# Altium schematic symbol library XU-GENARAL SCH.SCHLIB: 318 symbols (part 1 of 2)
Pins are listed as number, name and electrical type; pins without a type are passive.

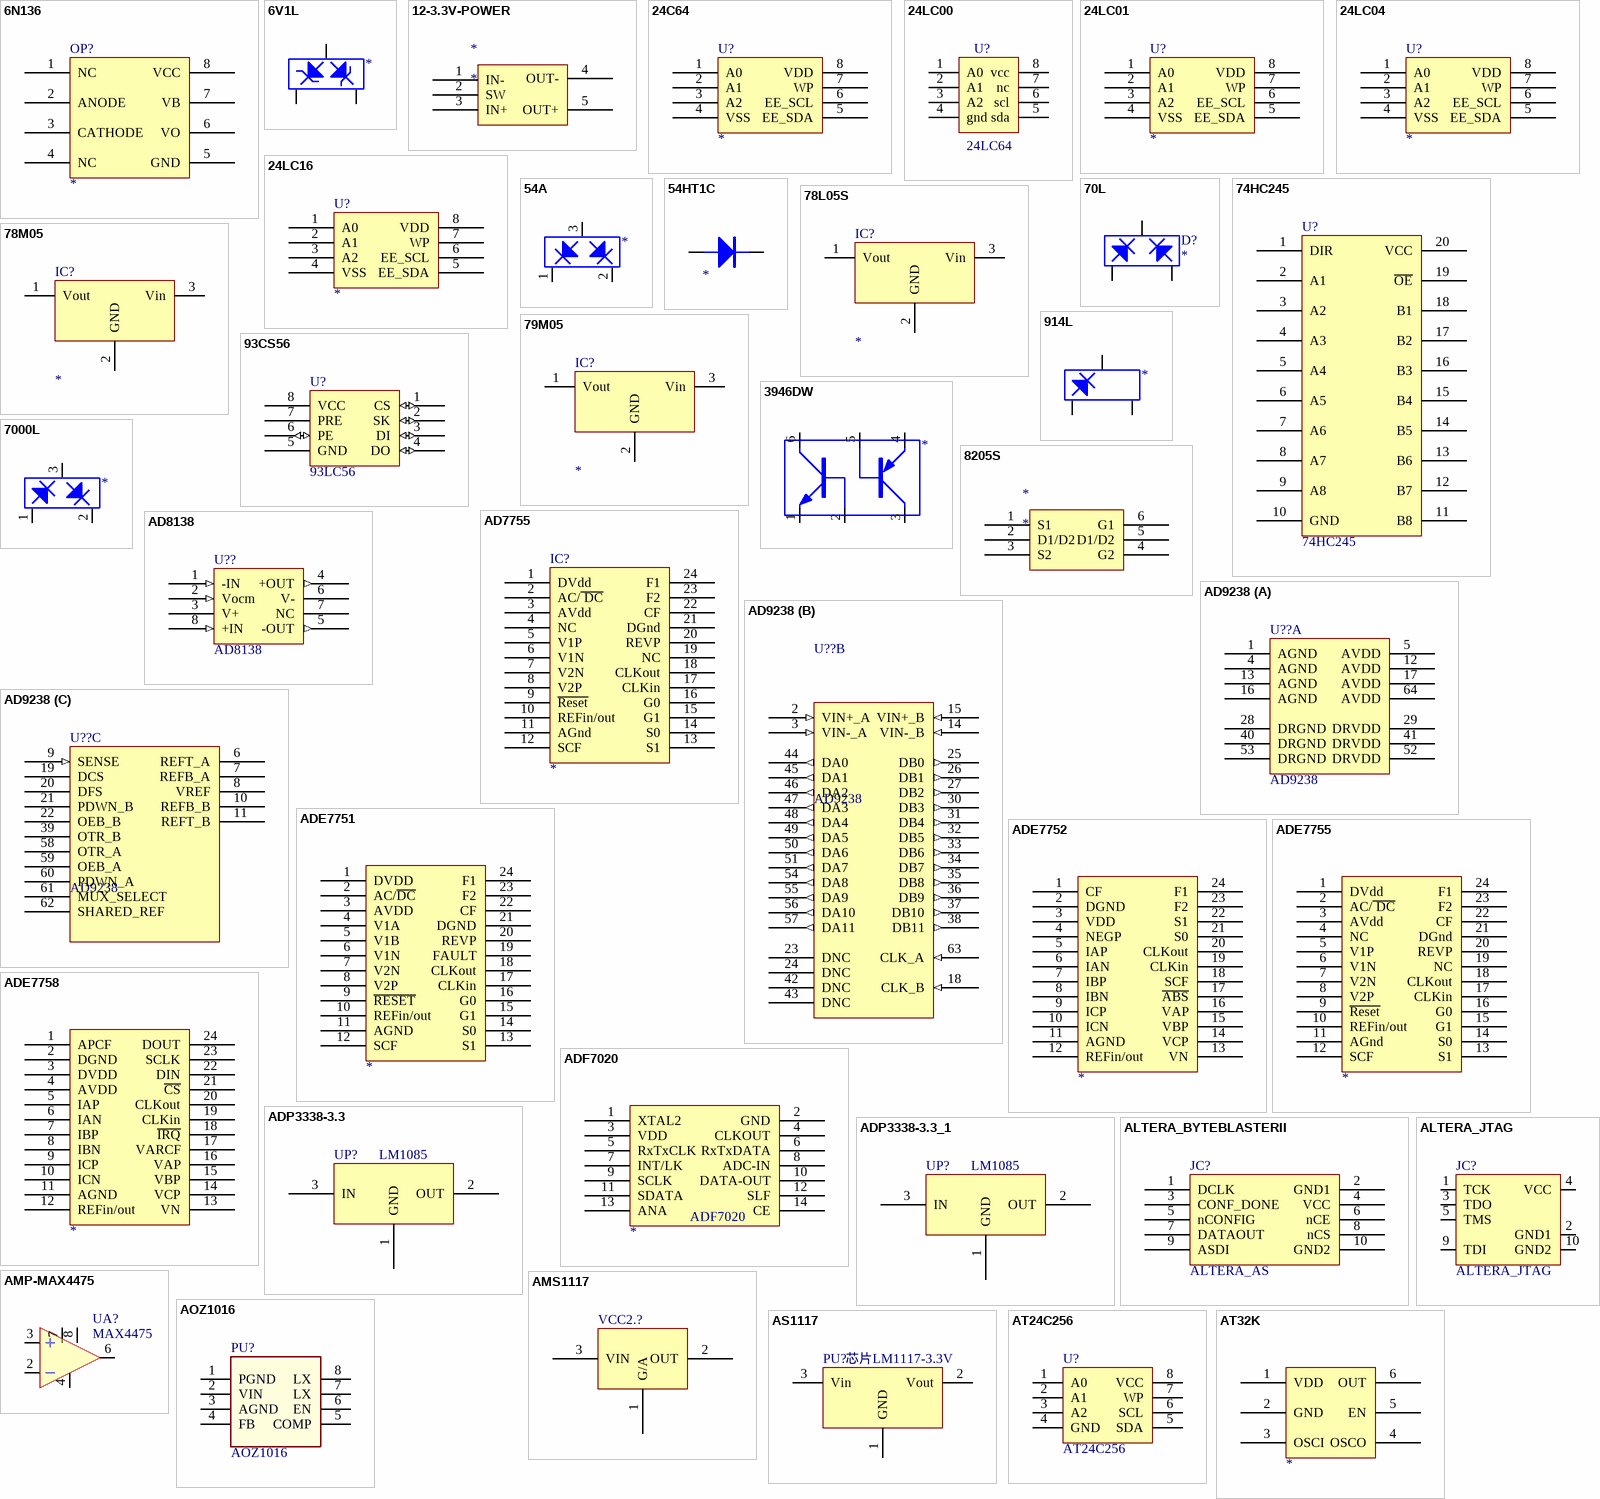
[diagram p0: symbols 6N136 to AT32K]

## 6N136
designator OP?
footprint DIP8
pins: 1 NC, 2 ANODE, 3 CATHODE, 4 NC, 5 GND, 6 VO, 7 VB, 8 VCC

## 6V1L
designator ?
pins: 1, 2, 3

## 12-3.3V-POWER
designator *
pins: 1 IN-, 2 SW, 3 IN+, 4 OUT-, 5 OUT+

## 24C64
designator U?
footprint SO-8
footprint DIP8
pins: 1 A0, 2 A1, 3 A2, 4 VSS, 5 EE_SDA, 6 EE_SCL, 7 WP, 8 VDD

## 24LC00
designator U?, comment 24LC64
footprint dip8
footprint 24C64(four usb)
pins: 1 A0, 2 A1, 3 A2, 4 gnd, 5 sda, 6 scl, 7 nc, 8 vcc

## 24LC01
designator U?
footprint SO-8
footprint DIP8
pins: 1 A0, 2 A1, 3 A2, 4 VSS, 5 EE_SDA, 6 EE_SCL, 7 WP, 8 VDD

## 24LC04
designator U?
footprint SO-8
footprint DIP8
pins: 1 A0, 2 A1, 3 A2, 4 VSS, 5 EE_SDA, 6 EE_SCL, 7 WP, 8 VDD

## 24LC16
designator U?
footprint SO-8
footprint DIP8
pins: 1 A0, 2 A1, 3 A2, 4 VSS, 5 EE_SDA, 6 EE_SCL, 7 WP, 8 VDD

## 54A
designator ?
pins: 1, 2, 3

## 54HT1C
designator ?
pins: A, K

## 70L
designator D?
footprint SOT23
pins: 1, 2, 3

## 74HC245
designator U?
footprint SOJ20/400
pins: 1 DIR, 2 A1, 3 A2, 4 A3, 5 A4, 6 A5, 7 A6, 8 A7, 9 A8, 10 GND, 11 B8, 12 B7, 13 B6, 14 B5, 15 B4, 16 B3, 17 B2, 18 B1, 19 ~{OE}, 20 VCC

## 78L05S
designator IC?
footprint SOT-89-1
pins: 1 Vout, 2 GND, 3 Vin

## 78M05
designator IC?
footprint SOT-89-1
pins: 1 Vout, 2 GND, 3 Vin

## 79M05
designator IC?
footprint SOT-89-1
pins: 1 Vout, 2 GND, 3 Vin

## 93CS56
designator U?, comment 93LC56
footprint DIP8
pins: 1 CS (io), 2 SK (io), 3 DI (io), 4 DO (io), 5 GND, 6 PE (io), 7 PRE, 8 VCC

## 914L
designator ?
pins: 1, 2, 3

## 3946DW
designator ?
pins: 1 E, 2 B, 3 C, 4 E, 5 B, 6 C

## 7000L
designator ?
pins: 1, 2, 3

## 8205S
designator *
pins: 1 S1, 2 D1/D2, 3 S2, 4 G2, 5 D1/D2, 6 G1

## AD7755
designator IC?
footprint DIP24_AD7755AAN
footprint SSOP24_AD7755AARS
pins: 1 DVdd, 2 AC/~{ DC}, 3 AVdd, 4 NC, 5 V1P, 6 V1N, 7 V2N, 8 V2P, 9 ~{Reset}, 10 REFin/out, 11 AGnd, 12 SCF, 13 S1, 14 S0, 15 G1, 16 G0, 17 CLKin, 18 CLKout, 19 NC, 20 REVP, 21 DGnd, 22 CF, 23 F2, 24 F1

## AD8138
designator U??
footprint AD8138 (SOIC, 8-Leads, Body 5.0x4.0mm (max), Pitch 1.27mm, IPC Medium Density)
pins: 1 -IN (in), 2 Vocm (in), 3 V+ (power), 4 +OUT (out), 5 -OUT (out), 6 V- (power), 7 NC, 8 +IN (in)

## AD9238
designator U??
part A pins: 1 AGND (power), 4 AGND (power), 5 AVDD (power), 12 AVDD (power), 13 AGND, 16 AGND, 17 AVDD (power), 28 DRGND (power), 29 DRVDD (power), 40 DRGND (power), 41 DRVDD (power), 52 DRVDD (power), 53 DRGND (power), 64 AVDD (power)
part B pins: 2 VIN+_A (in), 3 VIN-_A (in), 14 VIN-_B (in), 15 VIN+_B (in), 18 CLK_B (in), 23 DNC, 24 DNC, 25 DB0 (out), 26 DB1 (out), 27 DB2 (out), 30 DB3 (out), 31 DB4 (out), 32 DB5 (out), 33 DB6 (out), 34 DB7 (out), 35 DB8 (out), 36 DB9 (out), 37 DB10 (out), 38 DB11 (out), 42 DNC, 43 DNC, 44 DA0 (out), 45 DA1 (out), 46 DA2 (out), 47 DA3 (out), 48 DA4 (out), 49 DA5 (out), 50 DA6 (out), 51 DA7 (out), 54 DA8 (out), 55 DA9 (out), 56 DA10 (out), 57 DA11 (out), 63 CLK_A (in)
part C pins: 6 REFT_A, 7 REFB_A, 8 VREF, 9 SENSE (in), 10 REFB_B, 11 REFT_B, 19 DCS, 20 DFS, 21 PDWN_B, 22 OEB_B, 39 OTR_B, 58 OTR_A, 59 OEB_A, 60 PDWN_A, 61 MUX_SELECT, 62 SHARED_REF

## ADE7751
designator ?
pins: 1 DVDD, 2 AC/~{DC}, 3 AVDD, 4 V1A, 5 V1B, 6 V1N, 7 V2N, 8 V2P, 9 ~{RESET}, 10 REFin/out, 11 AGND, 12 SCF, 13 S1, 14 S0, 15 G1, 16 G0, 17 CLKin, 18 CLKout, 19 FAULT, 20 REVP, 21 DGND, 22 CF, 23 F2, 24 F1

## ADE7752
designator ?
footprint SOIC24_ADE7752
pins: 1 CF, 2 DGND, 3 VDD, 4 NEGP, 5 IAP, 6 IAN, 7 IBP, 8 IBN, 9 ICP, 10 ICN, 11 AGND, 12 REFin/out, 13 VN, 14 VCP, 15 VBP, 16 VAP, 17 ~{ABS}, 18 SCF, 19 CLKin, 20 CLKout, 21 S0, 22 S1, 23 F2, 24 F1

## ADE7755
designator ?
pins: 1 DVdd, 2 AC/~{ DC}, 3 AVdd, 4 NC, 5 V1P, 6 V1N, 7 V2N, 8 V2P, 9 ~{Reset}, 10 REFin/out, 11 AGnd, 12 SCF, 13 S1, 14 S0, 15 G1, 16 G0, 17 CLKin, 18 CLKout, 19 NC, 20 REVP, 21 DGnd, 22 CF, 23 F2, 24 F1

## ADE7758
designator ?
pins: 1 APCF, 2 DGND, 3 DVDD, 4 AVDD, 5 IAP, 6 IAN, 7 IBP, 8 IBN, 9 ICP, 10 ICN, 11 AGND, 12 REFin/out, 13 VN, 14 VCP, 15 VBP, 16 VAP, 17 VARCF, 18 ~{IRQ}, 19 CLKin, 20 CLKout, 21 ~{CS}, 22 DIN, 23 SCLK, 24 DOUT

## ADF7020
designator ?
pins: 1 XTAL2, 2 GND, 3 VDD, 4 CLKOUT, 5 RxTxCLK, 6 RxTxDATA, 7 INT/LK, 8 ADC-IN, 9 SCLK, 10 DATA-OUT, 11 SDATA, 12 SLF, 13 ANA, 14 CE

## ADP3338-3.3
designator UP?, comment LM1085
Text Field1: 80; Text Field2: 40
footprint DDPAK
pins: 1 GND (power), 2 OUT (power), 3 IN (power)

## ADP3338-3.3_1
designator UP?, comment LM1085
Text Field1: 80; Text Field2: 40
footprint DDPAK
pins: 1 GND (power), 2 OUT (power), 3 IN (power)

## ALTERA_BYTEBLASTERII
designator JC?, comment ALTERA_AS
Text Field1: 100; Text Field2: 60
footprint IDC10
pins: 1 DCLK, 2 GND1, 3 CONF_DONE, 4 VCC, 5 nCONFIG, 6 nCE, 7 DATAOUT, 8 nCS, 9 ASDI, 10 GND2
1 alternate drawing of the same symbol

## ALTERA_JTAG
designator JC?
Text Field1: 70; Text Field2: 60
footprint IDC10
pins: 1 TCK, 2 GND1 (power), 3 TDO, 4 VCC (power), 5 TMS, 6 NC1 hidden to NC1, 7 NC2 hidden to NC2, 8 NC3 hidden to NC3, 9 TDI, 10 GND2 (power)

## AMP-MAX4475
designator UA?, comment MAX4475
footprint SO8
footprint SO8 - 1
pins: 2 IN-, 3 IN+, 4 V- (power), 6 OUT, 7 V+ (power), 8 EN (power)

## AMS1117
designator VCC2.?  (value not drawn)
footprint AMS1117-1.2
pins: 1 G/A (power), 2 OUT (power), 3 VIN (power)

## AOZ1016
designator PU?
footprint SO8
pins: 1 PGND, 2 VIN, 3 AGND, 4 FB, 5 COMP, 6 EN, 7 LX, 8 LX

## AS1117
designator PU?, comment 芯片LM1117-3.3V
footprint SOT223S
pins: 1 GND, 2 Vout, 3 Vin

## AT24C256
designator U?
footprint SO8
pins: 1 A0, 2 A1, 3 A2, 4 GND, 5 SDA, 6 SCL, 7 WP, 8 VCC

## AT32K
designator ?
pins: 1 VDD, 2 GND, 3 OSCI, 4 OSCO, 5 EN, 6 OUT

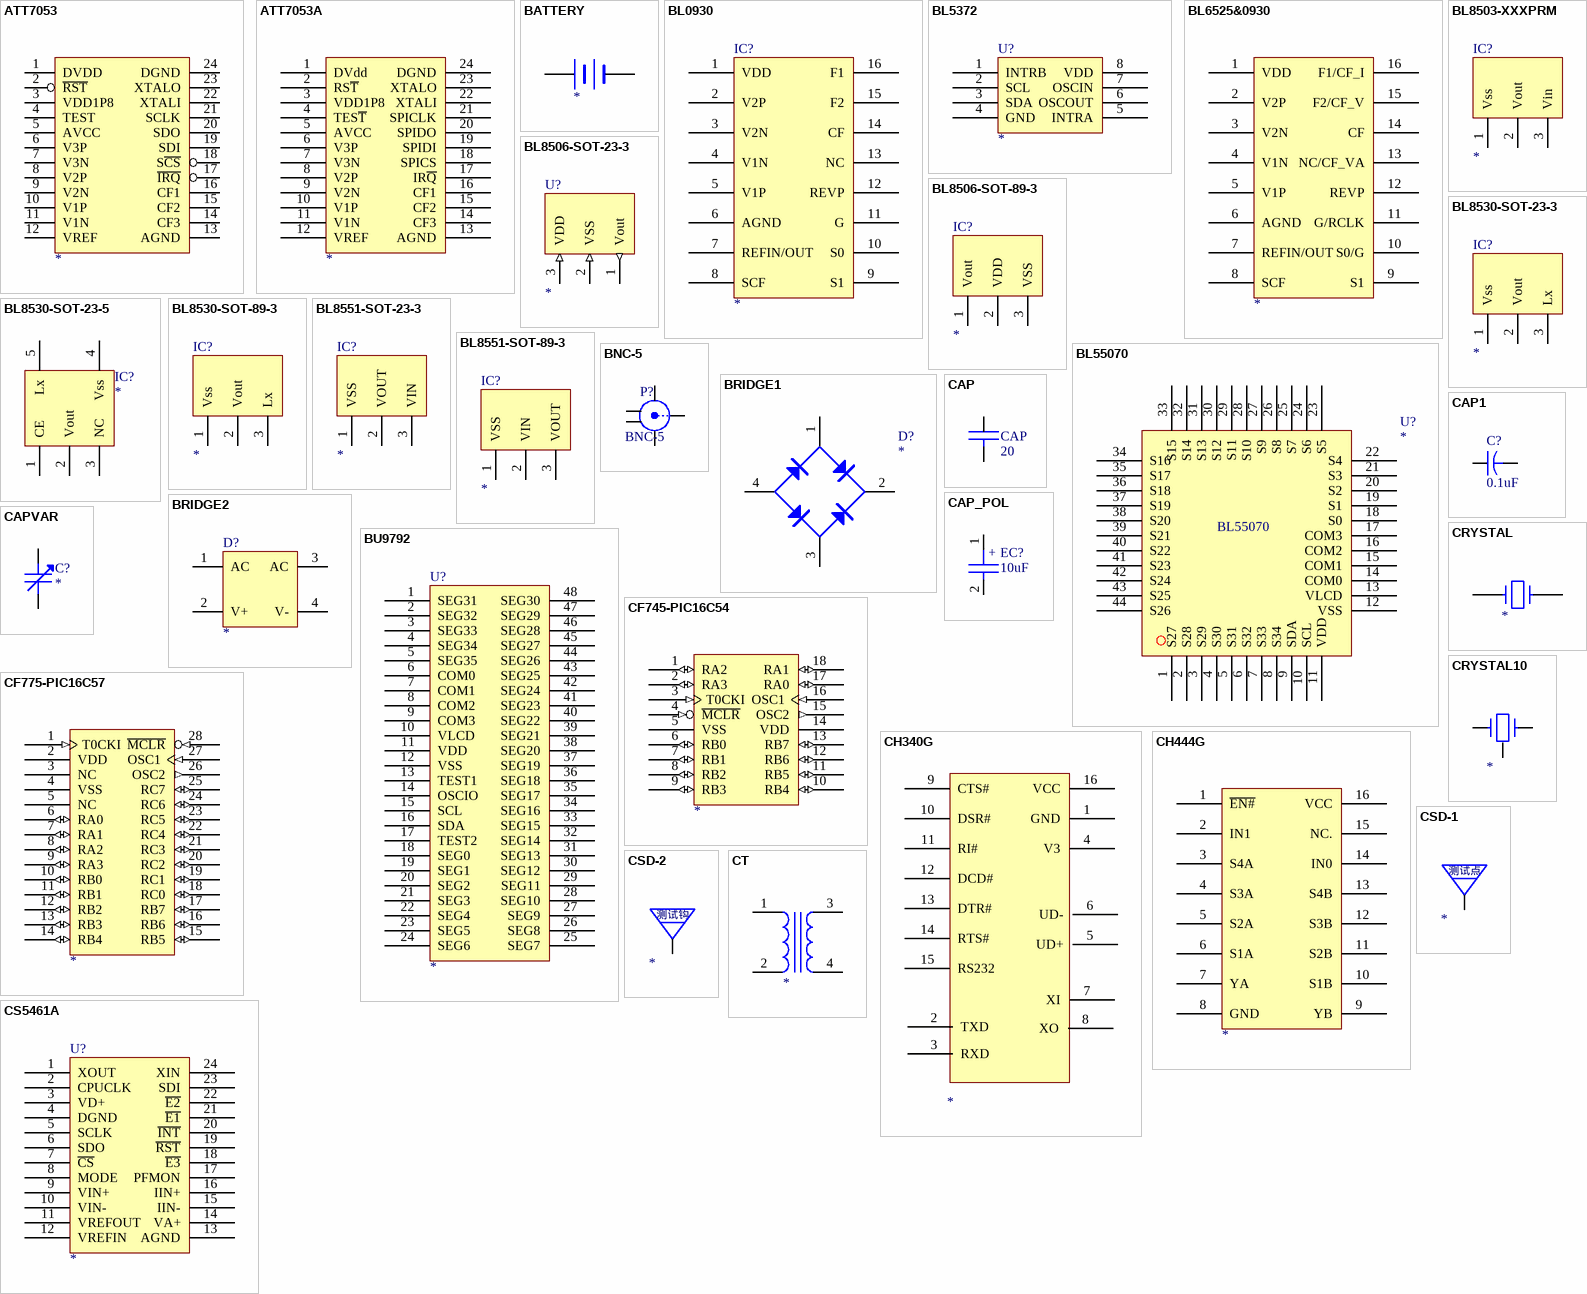
[diagram p1: symbols ATT7053 to CT]

## ATT7053
designator ?
pins: 1 DVDD, 2 ~{RST}, 3 VDD1P8, 4 TEST, 5 AVCC, 6 V3P, 7 V3N, 8 V2P, 9 V2N, 10 V1P, 11 V1N, 12 VREF, 13 AGND, 14 CF3, 15 CF2, 16 CF1, 17 ~{IRQ}, 18 S~{CS}, 19 SDI, 20 SDO, 21 SCLK, 22 XTALI, 23 XTALO, 24 DGND

## ATT7053A
designator ?
pins: 1 DVdd, 2 RS~{T}, 3 VDD1P8, 4 TES~{T}, 5 AVCC, 6 V3P, 7 V3N, 8 V2P, 9 V2N, 10 V1P, 11 V1N, 12 VREF, 13 AGND, 14 CF3, 15 CF2, 16 CF1, 17 IR~{Q}, 18 SPICS, 19 SPIDI, 20 SPIDO, 21 SPICLK, 22 XTALI, 23 XTALO, 24 DGND

## BATTERY
designator ?
pins: 1 +, 2 -

## BL0930
designator IC?
footprint AD71056
footprint R-16
pins: 1 VDD, 2 V2P, 3 V2N, 4 V1N, 5 V1P, 6 AGND, 7 REFIN/OUT, 8 SCF, 9 S1, 10 S0, 11 G, 12 REVP, 13 NC, 14 CF, 15 F2, 16 F1

## BL5372
designator U?
pins: 1 INTRB, 2 SCL, 3 SDA, 4 GND, 5 INTRA, 6 OSCOUT, 7 OSCIN, 8 VDD

## BL6525&0930
designator ?
pins: 1 VDD, 2 V2P, 3 V2N, 4 V1N, 5 V1P, 6 AGND, 7 REFIN/OUT, 8 SCF, 9 S1, 10 S0/G, 11 G/RCLK, 12 REVP, 13 NC/CF_VA, 14 CF, 15 F2/CF_V, 16 F1/CF_I

## BL8503-XXXPRM
designator IC?
BL8503-XXPRM
footprint SOT-23
pins: 1 Vss, 2 Vout, 3 Vin

## BL8506-SOT-23-3
designator U?
BL8506-30CRM
footprint SOT23
pins: 1 Vout (out), 2 VSS (in), 3 VDD (in)

## BL8506-SOT-89-3
designator IC?
7805
footprint TO-92B
pins: 1 Vout, 2 VDD, 3 VSS

## BL8530-SOT-23-3
designator IC?
7805
footprint TO-92B
pins: 1 Vss, 2 Vout, 3 Lx

## BL8530-SOT-23-5
designator IC?
7805
footprint TO-92B
pins: 1 CE, 2 Vout, 3 NC, 4 Vss, 5 Lx

## BL8530-SOT-89-3
designator IC?
7805
footprint TO-92B
pins: 1 Vss, 2 Vout, 3 Lx

## BL8551-SOT-23-3
designator IC?
7805
footprint TO-92B
pins: 1 VSS, 2 VOUT, 3 VIN

## BL8551-SOT-89-3
designator IC?
7805
footprint TO-92B
pins: 1 VSS, 2 VIN, 3 VOUT

## BL55070
designator U?
pins: 1 S27, 2 S28, 3 S29, 4 S30, 5 S31, 6 S32, 7 S33, 8 S34, 9 SDA, 10 SCL, 11 VDD, 12 VSS, 13 VLCD, 14 COM0, 15 COM1, 16 COM2, 17 COM3, 18 S0, 19 S1, 20 S2, 21 S3, 22 S4, 23 S5, 24 S6, 25 S7, 26 S8, 27 S9, 28 S10, 29 S11, 30 S12, 31 S13, 32 S14, 33 S15, 34 S16, 35 S17, 36 S18, 37 S19, 38 S20, 39 S21, 40 S22, 41 S23, 42 S24, 43 S25, 44 S26

## BNC-5
designator P?
BNC Elbow Connector; LatestRevisionDate: 17-Jul-2002; LatestRevisionNote: Re-released for DXP Platform.; Publisher: Altium Limited
footprint MIN_BNC
pins: 1 X, 2 Y1, 3 Y2, 4 Y3, 5 Y4

## BRIDGE1
designator D?
Diode Bridge
footprint BRIDGE
pins: 1 AC, 2 V+, 3 AC, 4 V-

## BRIDGE2
designator D?
Diode Bridge
footprint BRIDGE
pins: 1 AC, 2 V+, 3 AC, 4 V-

## BU9792
designator U?
pins: 1 SEG31, 2 SEG32, 3 SEG33, 4 SEG34, 5 SEG35, 6 COM0, 7 COM1, 8 COM2, 9 COM3, 10 VLCD, 11 VDD, 12 VSS, 13 TEST1, 14 OSCIO, 15 SCL, 16 SDA, 17 TEST2, 18 SEG0, 19 SEG1, 20 SEG2, 21 SEG3, 22 SEG4, 23 SEG5, 24 SEG6, 25 SEG7, 26 SEG8, 27 SEG9, 28 SEG10, 29 SEG11, 30 SEG12, 31 SEG13, 32 SEG14, 33 SEG15, 34 SEG16, 35 SEG17, 36 SEG18, 37 SEG19, 38 SEG20, 39 SEG21, 40 SEG22, 41 SEG23, 42 SEG24, 43 SEG25, 44 SEG26, 45 SEG27, 46 SEG28, 47 SEG29, 48 SEG30

## CAP
designator CAP, comment 20
CAP; Text Field2: 10; Text Field1: 20
footprint 0603
pins: 1, 2

## CAP1
designator C?, comment 0.1uF
Capacitor; Value: 10uF; Published: 23-Sep-2002; PackageReference: CAPR5-4X5; Publisher: Altium Limited
footprint CAPR5-4X5 (Capacitor; 2 Leads)
simulation model CAP (Capacitor)
signal-integrity model Cap
footprint 3216[1206] (Chip Resistor; Body 3.2 x 1.6 mm (LxW typ))
pins: 1, 2

## CAP_POL
designator EC?, comment 10uF
Text Field1: 20; Text Field2: 20
footprint 1206
pins: 1, 2
text: +

## CAPVAR
designator C?
Variable Capacitor
pins: 1, 2

## CF745-PIC16C54
designator ?
pins: 1 RA2 (io), 2 RA3 (io), 3 T0CKI (in), 4 ~{MCLR} (in), 5 VSS (power), 6 RB0 (io), 7 RB1 (io), 8 RB2 (io), 9 RB3 (io), 10 RB4 (io), 11 RB5 (io), 12 RB6 (io), 13 RB7 (io), 14 VDD, 15 OSC2 (out), 16 OSC1 (in), 17 RA0 (io), 18 RA1 (io)

## CF775-PIC16C57
designator ?
pins: 1 T0CKI (in), 2 VDD (power), 3 NC, 4 VSS (power), 5 NC, 6 RA0 (io), 7 RA1 (io), 8 RA2 (io), 9 RA3 (io), 10 RB0 (io), 11 RB1 (io), 12 RB2 (io), 13 RB3 (io), 14 RB4 (io), 15 RB5 (io), 16 RB6 (io), 17 RB7 (io), 18 RC0 (io), 19 RC1 (io), 20 RC2 (io), 21 RC3 (io), 22 RC4 (io), 23 RC5 (io), 24 RC6 (io), 25 RC7 (io), 26 OSC2 (out), 27 OSC1 (in), 28 ~{MCLR} (in)

## CH340G
designator ?
pins: 1 GND, 2 TXD, 3 RXD, 4 V3, 5 UD+, 6 UD-, 7 XI, 8 XO, 9 CTS#, 10 DSR#, 11 RI#, 12 DCD#, 13 DTR#, 14 RTS#, 15 RS232, 16 VCC

## CH444G
designator ?
pins: 1 ~{EN#}, 2 IN1, 3 S4A, 4 S3A, 5 S2A, 6 S1A, 7 YA, 8 GND, 9 YB, 10 S1B, 11 S2B, 12 S3B, 13 S4B, 14 IN0, 15 NC., 16 VCC

## CRYSTAL
designator ?
pins: 1, 2

## CRYSTAL10
designator ?
pins: 1, 2, 3

## CS5461A
designator U?
footprint SSOP24
pins: 1 XOUT, 2 CPUCLK, 3 VD+, 4 DGND, 5 SCLK, 6 SDO, 7 ~{CS}, 8 MODE, 9 VIN+, 10 VIN-, 11 VREFOUT, 12 VREFIN, 13 AGND, 14 VA+, 15 IIN-, 16 IIN+, 17 PFMON, 18 ~{E3}, 19 ~{RST}, 20 ~{INT}, 21 ~{E1}, 22 ~{E2}, 23 SDI, 24 XIN

## CSD-1
designator ?
pins: 1
text: 测试点

## CSD-2
designator ?
pins: 1
text: 测试钩

## CT
designator ?
pins: 1, 2, 3, 4

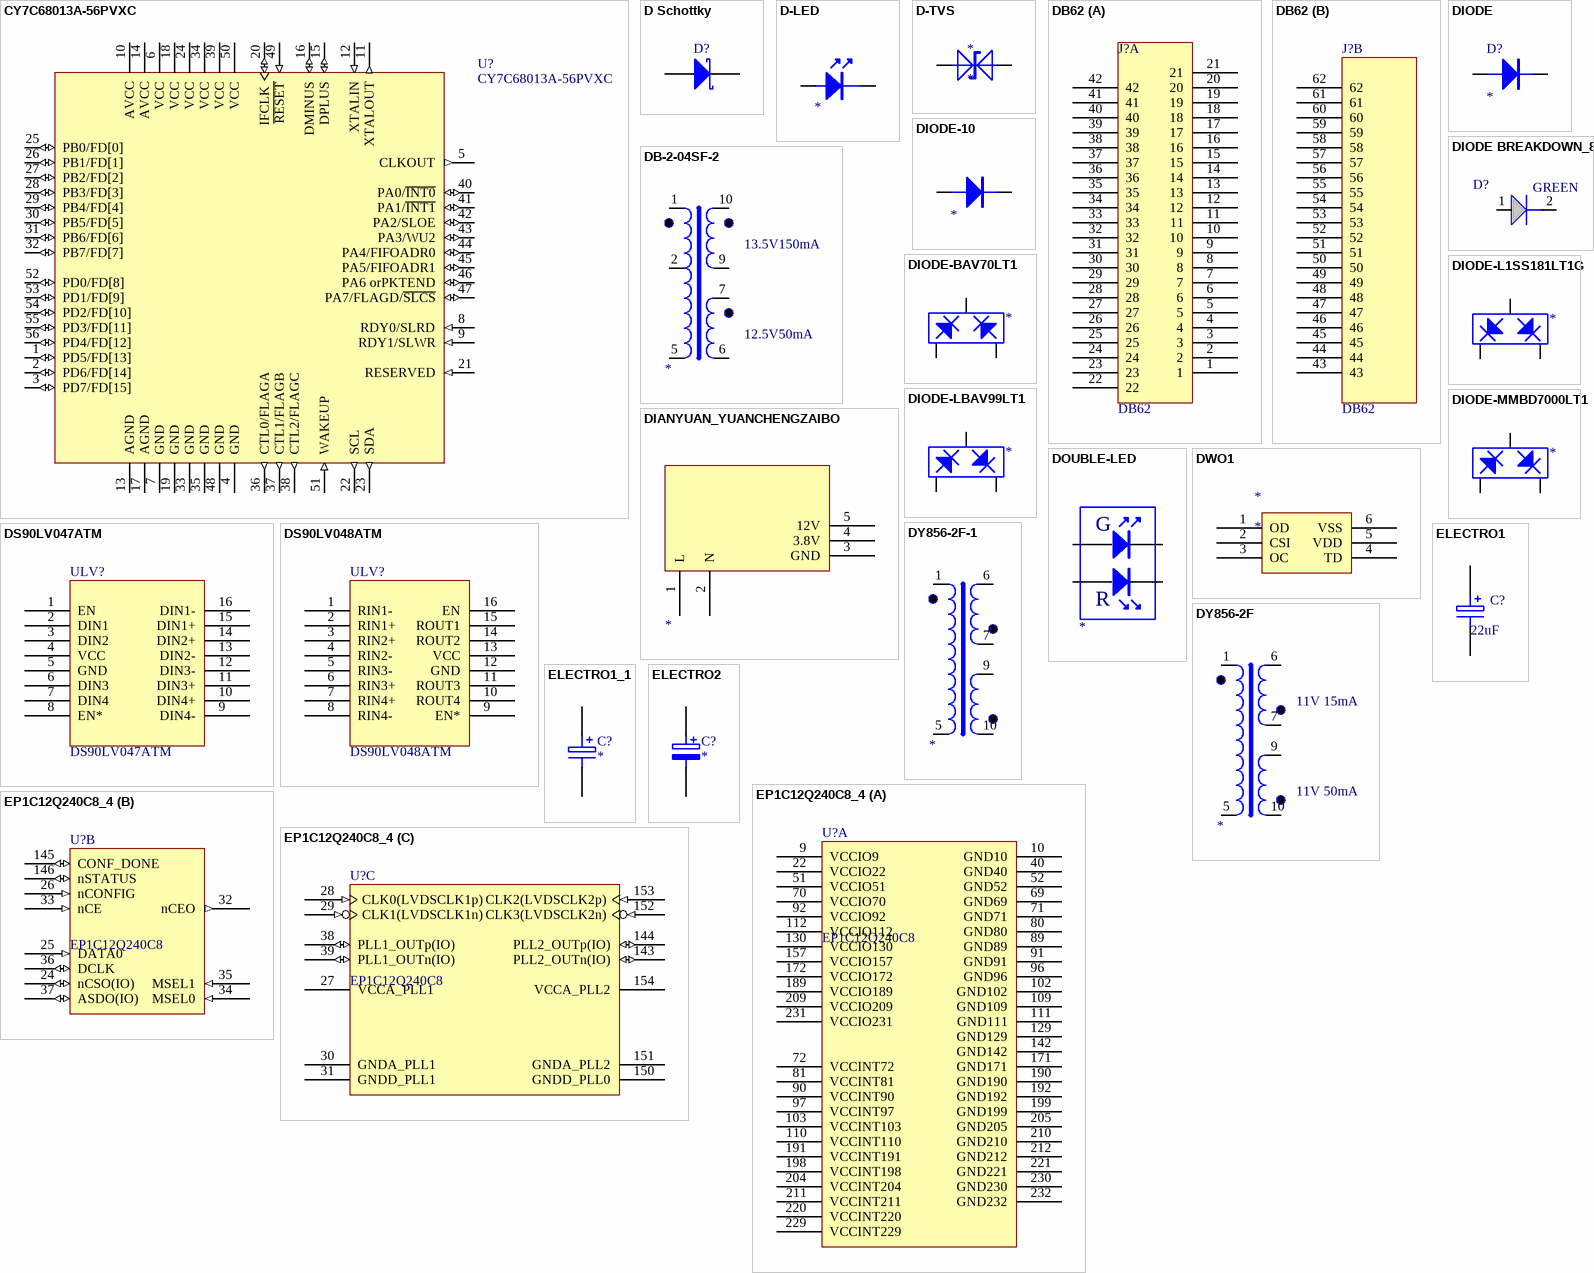
[diagram p2: symbols CY7C68013A-56PVXC to EP1C12Q240C8_4]

## CY7C68013A-56PVXC
designator U?
EZ-USB FX2LP USB Microcontroller Ideal for Non-Battery Powered Applications,16K RAM, 24 I/Os, 56-Pin SSOP, Pb-Free, Commercial Grade; Published: 16-Dec-2005; DatasheetVersion: rev.J, Sep-2005; PackageVersion: Feb-2005; PackageReference: O56; Publisher: Altium Limited; PackageDescription: SSOP; 56 Leads; Body Width 7.5 mm; Pitch 0.635 mm; Code_JEDEC: MO-118-AB; Code_IPC: SSO56; ComponentLink1Description: Manufacturer Link; ComponentLink1URL: http://www.cypress.com/portal/server.pt; ComponentLink2Description: Datasheet; ComponentLink2URL: http://www.cypress.com/portal/server.pt/gateway/PTARGS_0_2_1524_209_259_43/http%3B/sjapp20.mis.cypress.com%3B7001/publishedcontent/publish/design_resources/datasheets/contents/cy7c68013a_5.pdf
footprint O56 (SSOP; 56 Leads; Body Width 7.5 mm; Pitch 0.635 mm)
pins: 1 PD5/FD[13] (io) "Port D", 2 PD6/FD[14] (io) "Port D", 3 PD7/FD[15] (io) "Port D", 4 GND (power), 5 CLKOUT (out), 6 VCC (power), 7 GND (power), 8 RDY0/SLRD (in), 9 RDY1/SLWR (in), 10 AVCC (power), 11 XTALOUT (out), 12 XTALIN (in), 13 AGND (power), 14 AVCC (power), 15 DPLUS (io), 16 DMINUS (io), 17 AGND (power), 18 VCC (power), 19 GND (power), 20 IFCLK (io), 21 RESERVED (in), 22 SCL (out), 23 SDA (out), 24 VCC (power), 25 PB0/FD[0] (io) "Port B", 26 PB1/FD[1] (io) "Port B", 27 PB2/FD[2] (io) "Port B", 28 PB3/FD[3] (io) "Port B", 29 PB4/FD[4] (io) "Port B", 30 PB5/FD[5] (io) "Port B", 31 PB6/FD[6] (io) "Port B", 32 PB7/FD[7] (io) "Port B", 33 GND (power), 34 VCC (power), 35 GND (power), 36 CTL0/FLAGA (out), 37 CTL1/FLAGB (out), 38 CTL2/FLAGC (out), 39 VCC (power), 40 PA0/~{INT0} (io) "Port A", 41 PA1/~{INT1} (io) "Port A", 42 PA2/SLOE (io) "Port A", 43 PA3/WU2 (io) "Port A", 44 PA4/FIFOADR0 (io) "Port A", 45 PA5/FIFOADR1 (io) "Port A", 46 PA6 orPKTEND (io) "Port A", 47 PA7/FLAGD/~{SLCS} (io) "Port A", 48 GND (power), 49 ~{RESET} (in), 50 VCC (power), 51 WAKEUP (in), 52 PD0/FD[8] (io) "Port D", 53 PD1/FD[9] (io) "Port D", 54 PD2/FD[10] (io) "Port D", 55 PD3/FD[11] (io) "Port D", 56 PD4/FD[12] (io) "Port D"

## D Schottky
designator D?  (value not drawn)
Schottky Diode; Published: 8-Jun-2000; LatestRevisionDate: 17-Jul-2002; LatestRevisionNote: Re-released for DXP Platform.; PackageReference: SMB; Publisher: Altium Limited; Code_JEDEC: DO-214-AA
footprint SMB (DO-214-AA/SMB; 2 C-Bend Leads; Body 5.3 x 3.6 mm, inc. leads (LxW))
simulation model SKYDIODE (Diode)
signal-integrity model D Schottky
pins: 1 A, 2 K

## D-LED
designator ?
pins: A, K

## D-TVS
designator *
pins: 1, 2

## DB62
designator J?
footprint DB62RA/F
part A pins: 1, 2, 3, 4, 5, 6, 7, 8, 9, 10, 11, 12, 13, 14, 15, 16, 17, 18, 19, 20, 21, 22, 23, 24, 25, 26, 27, 28, 29, 30, 31, 32, 33, 34, 35, 36, 37, 38, 39, 40, 41, 42
part B pins: 43, 44, 45, 46, 47, 48, 49, 50, 51, 52, 53, 54, 55, 56, 57, 58, 59, 60, 61, 62

## DB-2-04SF-2
designator ?
footprint KD2818-01
pins: 1, 2, 5, 6, 7, 9, 10
text: 13.5V150mA; 12.5V50mA

## DIANYUAN_YUANCHENGZAIBO
designator ?
pins: 1 L, 2 N, 3 GND, 4 3.8V, 5 12V, 6 GND_JiLiang hidden to GND_JiLiang, 7 5V_JiLiang hidden to 5V_JiLiang

## DIODE
designator D?
Diode
pins: A, K

## DIODE BREAKDOWN_8
designator D?, comment GREEN
Text Field1: 20; Text Field2: 20
footprint 0805
pins: 1, 2

## DIODE-10
designator ?
pins: 1 A, 2 K

## DIODE-BAV70LT1
designator ?
footprint SOT-23
pins: 1 A, 2 A, 3 K

## DIODE-L1SS181LT1G
designator ?
footprint SOT-23
pins: 1 K, 2 K, 3 A

## DIODE-LBAV99LT1
designator ?
footprint SOT-23
pins: 1, 2, 3

## DIODE-MMBD7000LT1
designator ?
footprint SOT-23
pins: 1 A, 2 A, 3 K

## DOUBLE-LED
designator ?
pins: 1, 2, 3, 4
text: G; R

## DS90LV047ATM
designator ULV?
footprint SOIC-16
footprint SOP16A
pins: 1 EN, 2 DIN1, 3 DIN2, 4 VCC, 5 GND, 6 DIN3, 7 DIN4, 8 EN*, 9 DIN4-, 10 DIN4+, 11 DIN3+, 12 DIN3-, 13 DIN2-, 14 DIN2+, 15 DIN1+, 16 DIN1-

## DS90LV048ATM
designator ULV?
footprint SOIC-16
footprint SOP16A
pins: 1 RIN1-, 2 RIN1+, 3 RIN2+, 4 RIN2-, 5 RIN3-, 6 RIN3+, 7 RIN4+, 8 RIN4-, 9 EN*, 10 ROUT4, 11 ROUT3, 12 GND, 13 VCC, 14 ROUT2, 15 ROUT1, 16 EN

## DWO1
designator *
pins: 1 OD, 2 CSI, 3 OC, 4 TD, 5 VDD, 6 VSS

## DY856-2F
designator ?
footprint DY856-2F
pins: 1, 5, 6, 7, 9, 10
text: 11V 15mA; 11V 50mA

## DY856-2F-1
designator ?
footprint DY856-2F
pins: 1, 5, 6, 7, 9, 10

## ELECTRO1
designator C?, comment 22uF
Electrolytic Capacitor
footprint C0805 (Chip Capacitor; Body 2.0 x 1.2 mm (LxW typ))
footprint 3216[1206] (Chip Resistor; Body 3.2 x 1.6 mm (LxW typ))
pins: 1, 2

## ELECTRO1_1
designator C?
Electrolytic Capacitor
pins: 1, 2

## ELECTRO2
designator C?
Electrolytic Capacitor
pins: 1, 2

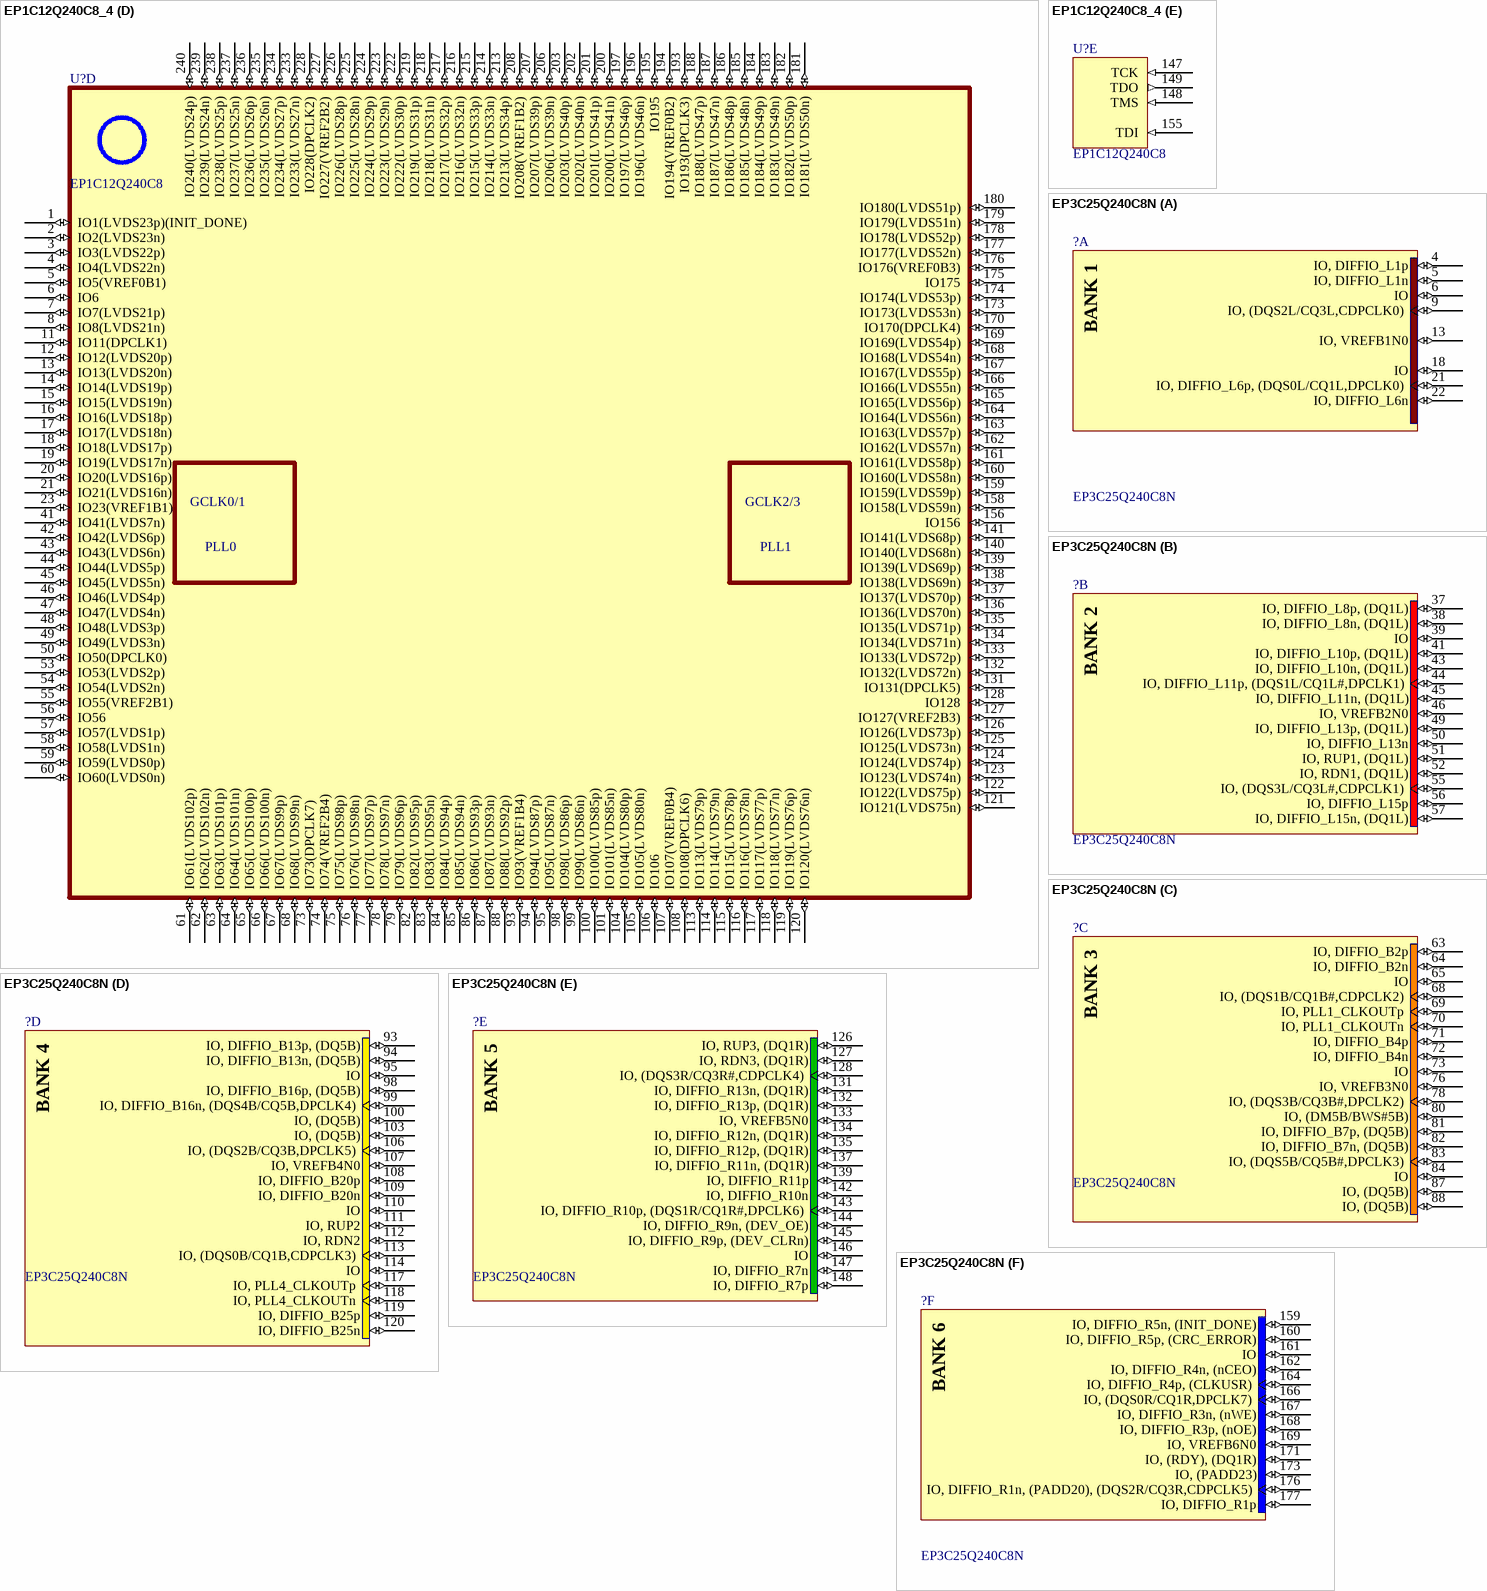
[diagram p3: symbols EP1C12Q240C8_4 to EP3C25Q240C8N]

## EP1C12Q240C8_4
designator U?, comment EP1C12Q240C8
Text Field1: 130; Text Field2: 270
footprint PQFP240
part A pins: 9 VCCIO9 (power), 10 GND10 (power), 22 VCCIO22 (power), 40 GND40 (power), 51 VCCIO51 (power), 52 GND52 (power), 69 GND69 (power), 70 VCCIO70 (power), 71 GND71 (power), 72 VCCINT72 (power), 80 GND80 (power), 81 VCCINT81 (power), 89 GND89 (power), 90 VCCINT90 (power), 91 GND91 (power), 92 VCCIO92 (power), 96 GND96 (power), 97 VCCINT97 (power), 102 GND102 (power), 103 VCCINT103 (power), 109 GND109 (power), 110 VCCINT110 (power), 111 GND111 (power), 112 VCCIO112 (power), 129 GND129 (power), 130 VCCIO130 (power), 142 GND142 (power), 157 VCCIO157 (power), 171 GND171 (power), 172 VCCIO172 (power), 189 VCCIO189 (power), 190 GND190 (power), 191 VCCINT191 (power), 192 GND192 (power), 198 VCCINT198 (power), 199 GND199 (power), 204 VCCINT204 (power), 205 GND205 (power), 209 VCCIO209 (power), 210 GND210 (power), 211 VCCINT211 (power), 212 GND212 (power), 220 VCCINT220 (power), 221 GND221 (power), 229 VCCINT229 (power), 230 GND230 (power), 231 VCCIO231 (power), 232 GND232 (power)
part B pins: 24 nCSO(IO) (io), 25 DATA0 (in), 26 nCONFIG (in), 32 nCEO (out), 33 nCE (in), 34 MSEL0 (in), 35 MSEL1 (in), 36 DCLK (io), 37 ASDO(IO) (io), 145 CONF_DONE (io), 146 nSTATUS (io)
part C pins: 27 VCCA_PLL1 (power), 28 CLK0(LVDSCLK1p) (in), 29 CLK1(LVDSCLK1n) (in), 30 GNDA_PLL1 (power), 31 GNDD_PLL1 (power), 38 PLL1_OUTp(IO) (io), 39 PLL1_OUTn(IO) (io), 143 PLL2_OUTn(IO) (io), 144 PLL2_OUTp(IO) (io), 150 GNDD_PLL0 (power), 151 GNDA_PLL2 (power), 152 CLK3(LVDSCLK2n) (in), 153 CLK2(LVDSCLK2p) (in), 154 VCCA_PLL2 (power)
part D pins: 1 IO1(LVDS23p)(INIT_DONE) (io), 2 IO2(LVDS23n) (io), 3 IO3(LVDS22p) (io), 4 IO4(LVDS22n) (io), 5 IO5(VREF0B1) (io), 6 IO6 (io), 7 IO7(LVDS21p) (io), 8 IO8(LVDS21n) (io), 11 IO11(DPCLK1) (io), 12 IO12(LVDS20p) (io), 13 IO13(LVDS20n) (io), 14 IO14(LVDS19p) (io), 15 IO15(LVDS19n) (io), 16 IO16(LVDS18p) (io), 17 IO17(LVDS18n) (io), 18 IO18(LVDS17p) (io), 19 IO19(LVDS17n) (io), 20 IO20(LVDS16p) (io), 21 IO21(LVDS16n) (io), 23 IO23(VREF1B1) (io), 41 IO41(LVDS7n) (io), 42 IO42(LVDS6p) (io), 43 IO43(LVDS6n) (io), 44 IO44(LVDS5p) (io), 45 IO45(LVDS5n) (io), 46 IO46(LVDS4p) (io), 47 IO47(LVDS4n) (io), 48 IO48(LVDS3p) (io), 49 IO49(LVDS3n) (io), 50 IO50(DPCLK0) (io), 53 IO53(LVDS2p) (io), 54 IO54(LVDS2n) (io), 55 IO55(VREF2B1) (io), 56 IO56 (io), 57 IO57(LVDS1p) (io), 58 IO58(LVDS1n) (io), 59 IO59(LVDS0p) (io), 60 IO60(LVDS0n) (io), 61 IO61(LVDS102p) (io), 62 IO62(LVDS102n) (io), 63 IO63(LVDS101p) (io), 64 IO64(LVDS101n) (io), 65 IO65(LVDS100p) (io), 66 IO66(LVDS100n) (io), 67 IO67(LVDS99p) (io), 68 IO68(LVDS99n) (io), 73 IO73(DPCLK7) (io), 74 IO74(VREF2B4) (io), 75 IO75(LVDS98p) (io), 76 IO76(LVDS98n) (io), 77 IO77(LVDS97p) (io), 78 IO78(LVDS97n) (io), 79 IO79(LVDS96p) (io), 82 IO82(LVDS95p) (io), 83 IO83(LVDS95n) (io), 84 IO84(LVDS94p) (io), 85 IO85(LVDS94n) (io), 86 IO86(LVDS93p) (io), 87 IO87(LVDS93n) (io), 88 IO88(LVDS92p) (io), 93 IO93(VREF1B4) (io), 94 IO94(LVDS87p) (io), 95 IO95(LVDS87n) (io), 98 IO98(LVDS86p) (io), 99 IO99(LVDS86n) (io), 100 IO100(LVDS85p) (io), 101 IO101(LVDS85n) (io), 104 IO104(LVDS80p) (io), 105 IO105(LVDS80n) (io), 106 IO106 (io), 107 IO107(VREF0B4) (io), 108 IO108(DPCLK6) (io), 113 IO113(LVDS79p) (io), 114 IO114(LVDS79n) (io), 115 IO115(LVDS78p) (io), 116 IO116(LVDS78n) (io), 117 IO117(LVDS77p) (io), 118 IO118(LVDS77n) (io), 119 IO119(LVDS76p) (io), 120 IO120(LVDS76n) (io), 121 IO121(LVDS75n) (io), 122 IO122(LVDS75p) (io), 123 IO123(LVDS74n) (io), 124 IO124(LVDS74p) (io), 125 IO125(LVDS73n) (io), 126 IO126(LVDS73p) (io), 127 IO127(VREF2B3) (io), 128 IO128 (io), 131 IO131(DPCLK5) (io), 132 IO132(LVDS72n) (io), 133 IO133(LVDS72p) (io), 134 IO134(LVDS71n) (io), 135 IO135(LVDS71p) (io), 136 IO136(LVDS70n) (io), 137 IO137(LVDS70p) (io), 138 IO138(LVDS69n) (io), 139 IO139(LVDS69p) (io), 140 IO140(LVDS68n) (io), 141 IO141(LVDS68p) (io), 156 IO156 (io), 158 IO158(LVDS59n) (io), 159 IO159(LVDS59p) (io), 160 IO160(LVDS58n) (io), 161 IO161(LVDS58p) (io), 162 IO162(LVDS57n) (io), 163 IO163(LVDS57p) (io), 164 IO164(LVDS56n) (io), 165 IO165(LVDS56p) (io), 166 IO166(LVDS55n) (io), 167 IO167(LVDS55p) (io), 168 IO168(LVDS54n) (io), 169 IO169(LVDS54p) (io), 170 IO170(DPCLK4) (io), 173 IO173(LVDS53n) (io), 174 IO174(LVDS53p) (io), 175 IO175 (io), 176 IO176(VREF0B3) (io), 177 IO177(LVDS52n) (io), 178 IO178(LVDS52p) (io), 179 IO179(LVDS51n) (io), 180 IO180(LVDS51p) (io), 181 IO181(LVDS50n) (io), 182 IO182(LVDS50p) (io), 183 IO183(LVDS49n) (io), 184 IO184(LVDS49p) (io), 185 IO185(LVDS48n) (io), 186 IO186(LVDS48p) (io), 187 IO187(LVDS47n) (io), 188 IO188(LVDS47p) (io), 193 IO193(DPCLK3) (io), 194 IO194(VREF0B2) (io), 195 IO195 (io), 196 IO196(LVDS46n) (io), 197 IO197(LVDS46p) (io), 200 IO200(LVDS41n) (io), 201 IO201(LVDS41p) (io), 202 IO202(LVDS40n) (io), 203 IO203(LVDS40p) (io), 206 IO206(LVDS39n) (io), 207 IO207(LVDS39p) (io), 208 IO208(VREF1B2) (io), 213 IO213(LVDS34p) (io), 214 IO214(LVDS33n) (io), 215 IO215(LVDS33p) (io), 216 IO216(LVDS32n) (io), 217 IO217(LVDS32p) (io), 218 IO218(LVDS31n) (io), 219 IO219(LVDS31p) (io), 222 IO222(LVDS30p) (io), 223 IO223(LVDS29n) (io), 224 IO224(LVDS29p) (io), 225 IO225(LVDS28n) (io), 226 IO226(LVDS28p) (io), 227 IO227(VREF2B2) (io), 228 IO228(DPCLK2) (io), 233 IO233(LVDS27n) (io), 234 IO234(LVDS27p) (io), 235 IO235(LVDS26n) (io), 236 IO236(LVDS26p) (io), 237 IO237(LVDS25n) (io), 238 IO238(LVDS25p) (io), 239 IO239(LVDS24n) (io), 240 IO240(LVDS24p) (io)
part E pins: 147 TCK (in), 148 TMS (in), 149 TDO (out), 155 TDI (in)
part D text: GCLK0/1; GCLK2/3; PLL0; PLL1

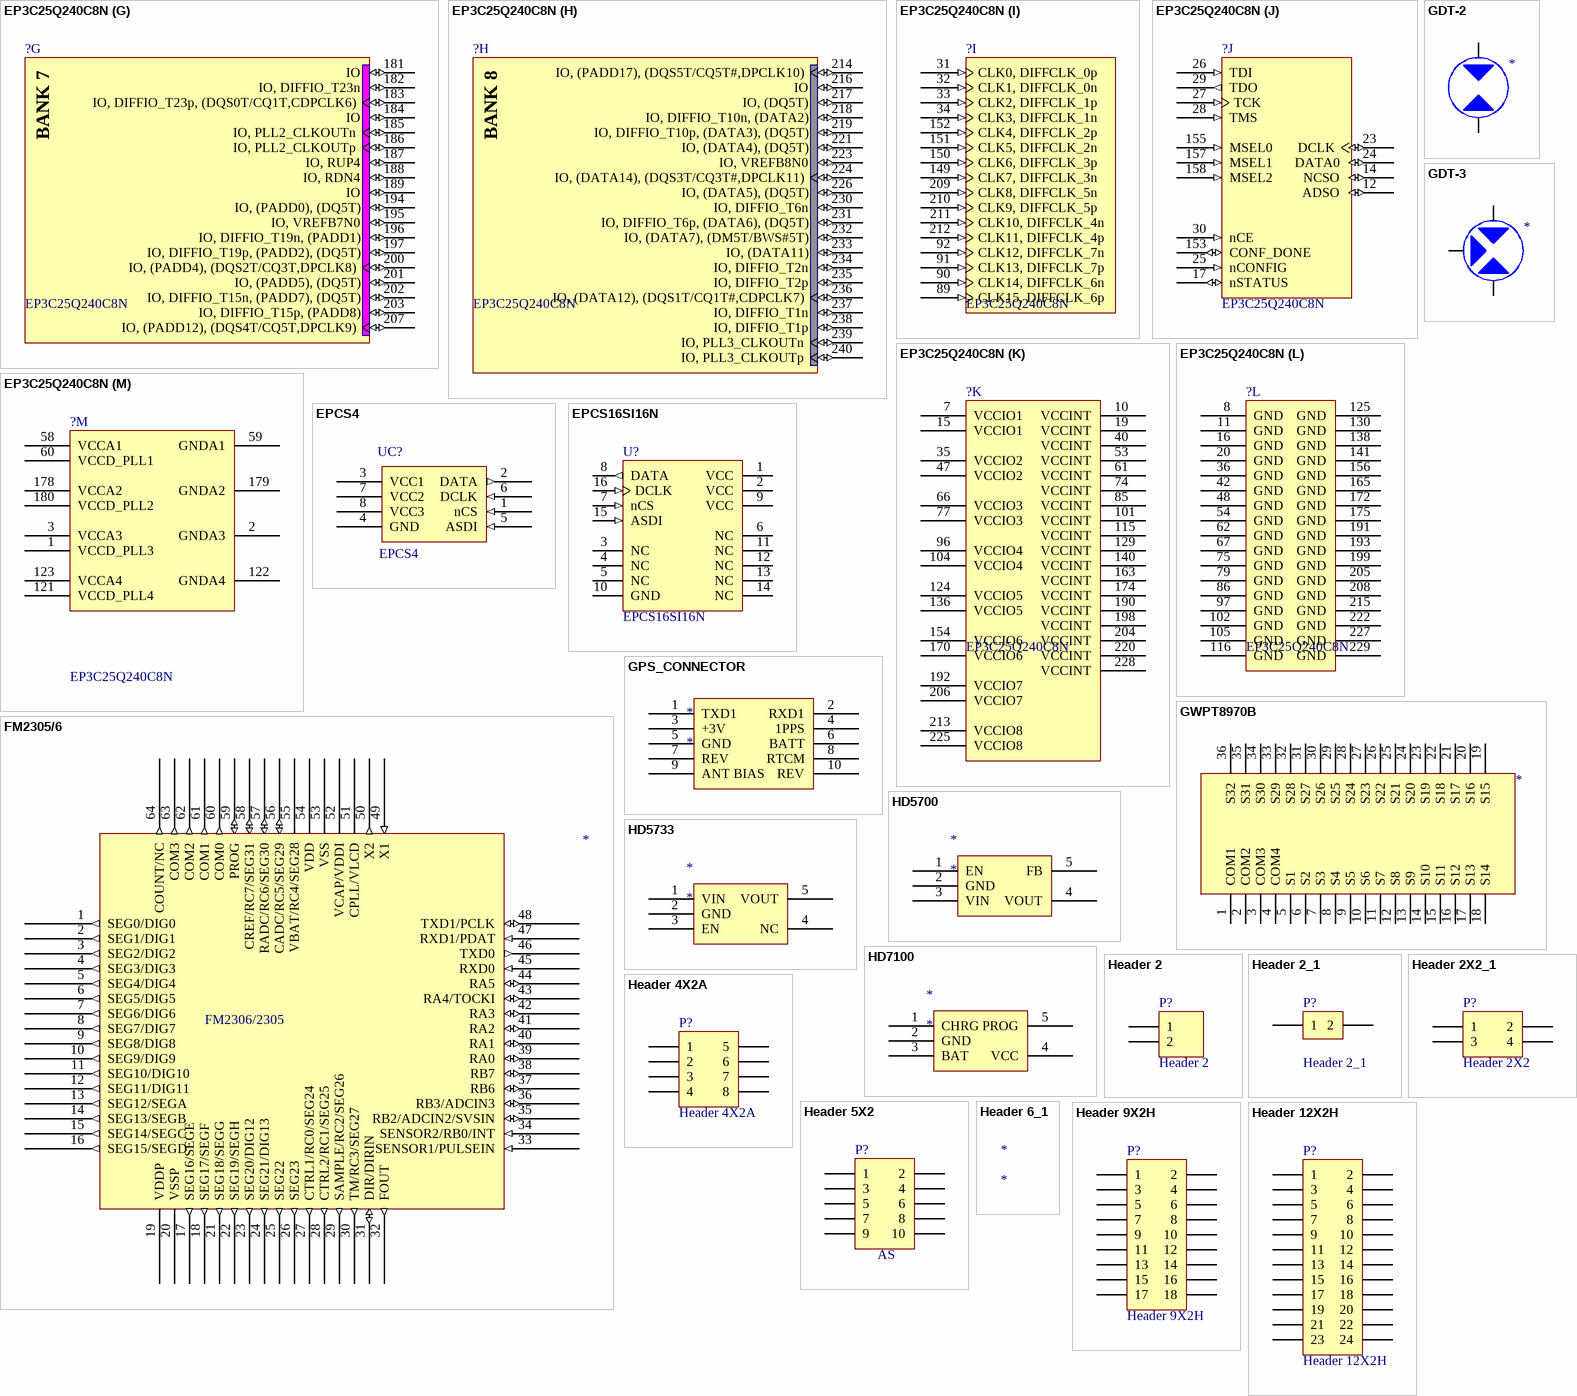
[diagram p4: symbols EP3C25Q240C8N to Header 12X2H]

## EP3C25Q240C8N
designator ?
Cyclone III Family FPGA, 148 I/O Pins, 4 PLLs, 240-Pin PQFP, Speed Grade 8, Commercial Grade, Pb-Free; Published: 26-Feb-2007; DatasheetVersion: ver1.2, Sep-2007; PackageVersion: ver14.8, Oct-2007; PackageReference: PQFP240; Publisher: Altium Limited; PackageDescription: 240-Pin Plastic Quad Flat Pack (PQFP240) - Wire Bond; Code_JEDEC: MS-029-GA; ComponentLink1Description: Manufacturer Link; ComponentLink1URL: http://www.altera.com/; ComponentLink2Description: Handbook (7.86MB); ComponentLink2URL: http://www.altera.com/literature/hb/cyc3/cyclone3_handbook.pdf; ComponentLink3Description: Packaging Specification; ComponentLink3URL: http://www.altera.com/literature/ds/dspkg.pdf
footprint PQFP240_N (Shrink QFP, 240-Leads, Body 32x32mm, Pitch 0.5mm, IPC Medium Density)
footprint PQFP240_L (Shrink QFP, 240-Leads, Body 32x32mm, Pitch 0.5mm, IPC High Density)
footprint PQFP240_M (Shrink QFP, 240-Leads, Body 32x32mm, Pitch 0.5mm, IPC Low Density)
3D model EP3C25-PQFP240 (240-Pin Plastic Quad Flat Pack (PQFP240) - Wire Bond)
signal-integrity model EP3C25_Q240 (Cyclone III)
part A pins: 4 IO, DIFFIO_L1p (io), 5 IO, DIFFIO_L1n (io), 6 IO (io), 9 IO, (DQS2L/CQ3L,CDPCLK0) (io), 13 IO, VREFB1N0 (io), 18 IO (io), 21 IO, DIFFIO_L6p, (DQS0L/CQ1L,DPCLK0) (io), 22 IO, DIFFIO_L6n (io)
part B pins: 37 IO, DIFFIO_L8p, (DQ1L) (io), 38 IO, DIFFIO_L8n, (DQ1L) (io), 39 IO (io), 41 IO, DIFFIO_L10p, (DQ1L) (io), 43 IO, DIFFIO_L10n, (DQ1L) (io), 44 IO, DIFFIO_L11p, (DQS1L/CQ1L#,DPCLK1) (io), 45 IO, DIFFIO_L11n, (DQ1L) (io), 46 IO, VREFB2N0 (io), 49 IO, DIFFIO_L13p, (DQ1L) (io), 50 IO, DIFFIO_L13n (io), 51 IO, RUP1, (DQ1L) (io), 52 IO, RDN1, (DQ1L) (io), 55 IO, (DQS3L/CQ3L#,CDPCLK1) (io), 56 IO, DIFFIO_L15p (io), 57 IO, DIFFIO_L15n, (DQ1L) (io)
part C pins: 63 IO, DIFFIO_B2p (io), 64 IO, DIFFIO_B2n (io), 65 IO (io), 68 IO, (DQS1B/CQ1B#,CDPCLK2) (io), 69 IO, PLL1_CLKOUTp (io), 70 IO, PLL1_CLKOUTn (io), 71 IO, DIFFIO_B4p (io), 72 IO, DIFFIO_B4n (io), 73 IO (io), 76 IO, VREFB3N0 (io), 78 IO, (DQS3B/CQ3B#,DPCLK2) (io), 80 IO, (DM5B/BWS#5B) (io), 81 IO, DIFFIO_B7p, (DQ5B) (io), 82 IO, DIFFIO_B7n, (DQ5B) (io), 83 IO, (DQS5B/CQ5B#,DPCLK3) (io), 84 IO (io), 87 IO, (DQ5B) (io), 88 IO, (DQ5B) (io)
part D pins: 93 IO, DIFFIO_B13p, (DQ5B) (io), 94 IO, DIFFIO_B13n, (DQ5B) (io), 95 IO (io), 98 IO, DIFFIO_B16p, (DQ5B) (io), 99 IO, DIFFIO_B16n, (DQS4B/CQ5B,DPCLK4) (io), 100 IO, (DQ5B) (io), 103 IO, (DQ5B) (io), 106 IO, (DQS2B/CQ3B,DPCLK5) (io), 107 IO, VREFB4N0 (io), 108 IO, DIFFIO_B20p (io), 109 IO, DIFFIO_B20n (io), 110 IO (io), 111 IO, RUP2 (io), 112 IO, RDN2 (io), 113 IO, (DQS0B/CQ1B,CDPCLK3) (io), 114 IO (io), 117 IO, PLL4_CLKOUTp (io), 118 IO, PLL4_CLKOUTn (io), 119 IO, DIFFIO_B25p (io), 120 IO, DIFFIO_B25n (io)
part E pins: 126 IO, RUP3, (DQ1R) (io), 127 IO, RDN3, (DQ1R) (io), 128 IO, (DQS3R/CQ3R#,CDPCLK4) (io), 131 IO, DIFFIO_R13n, (DQ1R) (io), 132 IO, DIFFIO_R13p, (DQ1R) (io), 133 IO, VREFB5N0 (io), 134 IO, DIFFIO_R12n, (DQ1R) (io), 135 IO, DIFFIO_R12p, (DQ1R) (io), 137 IO, DIFFIO_R11n, (DQ1R) (io), 139 IO, DIFFIO_R11p (io), 142 IO, DIFFIO_R10n (io), 143 IO, DIFFIO_R10p, (DQS1R/CQ1R#,DPCLK6) (io), 144 IO, DIFFIO_R9n, (DEV_OE) (io), 145 IO, DIFFIO_R9p, (DEV_CLRn) (io), 146 IO (io), 147 IO, DIFFIO_R7n (io), 148 IO, DIFFIO_R7p (io)
part F pins: 159 IO, DIFFIO_R5n, (INIT_DONE) (io), 160 IO, DIFFIO_R5p, (CRC_ERROR) (io), 161 IO (io), 162 IO, DIFFIO_R4n, (nCEO) (io), 164 IO, DIFFIO_R4p, (CLKUSR) (io), 166 IO, (DQS0R/CQ1R,DPCLK7) (io), 167 IO, DIFFIO_R3n, (nWE) (io), 168 IO, DIFFIO_R3p, (nOE) (io), 169 IO, VREFB6N0 (io), 171 IO, (RDY), (DQ1R) (io), 173 IO, (PADD23) (io), 176 IO, DIFFIO_R1n, (PADD20), (DQS2R/CQ3R,CDPCLK5) (io), 177 IO, DIFFIO_R1p (io)
part G pins: 181 IO (io), 182 IO, DIFFIO_T23n (io), 183 IO, DIFFIO_T23p, (DQS0T/CQ1T,CDPCLK6) (io), 184 IO (io), 185 IO, PLL2_CLKOUTn (io), 186 IO, PLL2_CLKOUTp (io), 187 IO, RUP4 (io), 188 IO, RDN4 (io), 189 IO (io), 194 IO, (PADD0), (DQ5T) (io), 195 IO, VREFB7N0 (io), 196 IO, DIFFIO_T19n, (PADD1) (io), 197 IO, DIFFIO_T19p, (PADD2), (DQ5T) (io), 200 IO, (PADD4), (DQS2T/CQ3T,DPCLK8) (io), 201 IO, (PADD5), (DQ5T) (io), 202 IO, DIFFIO_T15n, (PADD7), (DQ5T) (io), 203 IO, DIFFIO_T15p, (PADD8) (io), 207 IO, (PADD12), (DQS4T/CQ5T,DPCLK9) (io)
part H pins: 214 IO, (PADD17), (DQS5T/CQ5T#,DPCLK10) (io), 216 IO (io), 217 IO, (DQ5T) (io), 218 IO, DIFFIO_T10n, (DATA2) (io), 219 IO, DIFFIO_T10p, (DATA3), (DQ5T) (io), 221 IO, (DATA4), (DQ5T) (io), 223 IO, VREFB8N0 (io), 224 IO, (DATA14), (DQS3T/CQ3T#,DPCLK11) (io), 226 IO, (DATA5), (DQ5T) (io), 230 IO, DIFFIO_T6n (io), 231 IO, DIFFIO_T6p, (DATA6), (DQ5T) (io), 232 IO, (DATA7), (DM5T/BWS#5T) (io), 233 IO, (DATA11) (io), 234 IO, DIFFIO_T2n (io), 235 IO, DIFFIO_T2p (io), 236 IO, (DATA12), (DQS1T/CQ1T#,CDPCLK7) (io), 237 IO, DIFFIO_T1n (io), 238 IO, DIFFIO_T1p (io), 239 IO, PLL3_CLKOUTn (io), 240 IO, PLL3_CLKOUTp (io)
part I pins: 31 CLK0, DIFFCLK_0p (in), 32 CLK1, DIFFCLK_0n (in), 33 CLK2, DIFFCLK_1p (in), 34 CLK3, DIFFCLK_1n (in), 89 CLK15, DIFFCLK_6p (in), 90 CLK14, DIFFCLK_6n (in), 91 CLK13, DIFFCLK_7p (in), 92 CLK12, DIFFCLK_7n (in), 149 CLK7, DIFFCLK_3n (in), 150 CLK6, DIFFCLK_3p (in), 151 CLK5, DIFFCLK_2n (in), 152 CLK4, DIFFCLK_2p (in), 209 CLK8, DIFFCLK_5n (in), 210 CLK9, DIFFCLK_5p (in), 211 CLK10, DIFFCLK_4n (in), 212 CLK11, DIFFCLK_4p (in)
part J pins: 12 ADSO (io), 14 NCSO (io), 17 nSTATUS (io), 23 DCLK (io), 24 DATA0 (io), 25 nCONFIG (in), 26 TDI (in), 27 TCK (in), 28 TMS (in), 29 TDO (out), 30 nCE (in), 153 CONF_DONE (io), 155 MSEL0 (in), 157 MSEL1 (in), 158 MSEL2 (in)
part K pins: 7 VCCIO1 (power), 10 VCCINT (power), 15 VCCIO1 (power), 19 VCCINT (power), 35 VCCIO2 (power), 40 VCCINT (power), 47 VCCIO2 (power), 53 VCCINT (power), 61 VCCINT (power), 66 VCCIO3 (power), 74 VCCINT (power), 77 VCCIO3 (power), 85 VCCINT (power), 96 VCCIO4 (power), 101 VCCINT (power), 104 VCCIO4 (power), 115 VCCINT (power), 124 VCCIO5 (power), 129 VCCINT (power), 136 VCCIO5 (power), 140 VCCINT (power), 154 VCCIO6 (power), 163 VCCINT (power), 170 VCCIO6 (power), 174 VCCINT (power), 190 VCCINT (power), 192 VCCIO7 (power), 198 VCCINT (power), 204 VCCINT (power), 206 VCCIO7 (power), 213 VCCIO8 (power), 220 VCCINT (power), 225 VCCIO8 (power), 228 VCCINT (power)
part L pins: 8 GND (power), 11 GND (power), 16 GND (power), 20 GND (power), 36 GND (power), 42 GND (power), 48 GND (power), 54 GND (power), 62 GND (power), 67 GND (power), 75 GND (power), 79 GND (power), 86 GND (power), 97 GND (power), 102 GND (power), 105 GND (power), 116 GND (power), 125 GND (power), 130 GND (power), 138 GND (power), 141 GND (power), 156 GND (power), 165 GND (power), 172 GND (power), 175 GND (power), 191 GND (power), 193 GND (power), 199 GND (power), 205 GND (power), 208 GND (power), 215 GND (power), 222 GND (power), 227 GND (power), 229 GND (power)
part M pins: 1 VCCD_PLL3 (power), 2 GNDA3 (power), 3 VCCA3 (power), 58 VCCA1 (power), 59 GNDA1 (power), 60 VCCD_PLL1 (power), 121 VCCD_PLL4 (power), 122 GNDA4 (power), 123 VCCA4 (power), 178 VCCA2 (power), 179 GNDA2 (power), 180 VCCD_PLL2 (power)
part A text: BANK 1
part B text: BANK 2
part C text: BANK 3
part D text: BANK 4
part E text: BANK 5
part F text: BANK 6
part G text: BANK 7
part H text: BANK 8

## EPCS4
designator UC?
Text Field1: 70; Text Field2: 50
footprint SO8
footprint SO-8
pins: 1 nCS (in), 2 DATA (out), 3 VCC1 (power), 4 GND (power), 5 ASDI (in), 6 DCLK (in), 7 VCC2 (power), 8 VCC3 (power)

## EPCS16SI16N
designator U?
EPCS16 Series, In-system programmable 3.3V serial configuration device, 16-Pin SOIC, 16-Megabit, Industrial Grade, Pb-Free; Configures: Cyclone II, Stratix II, & Cyclone Devices; Published: 4-Mar-2005; LatestRevisionDate: 13-Apr-2006; LatestRevisionNote: IPC-7351 Footprint Added.; DatasheetVersion: ver2.0, Oct-2003; PackageVersion: ver13.0, May-2005; PackageReference: SOIC16; Publisher: Altium Limited; PackageDescription: 16-Pin Small Outline Integrated Circuit Package (SOIC16); Code_JEDEC: MS-013-AA; Code_IPC: SOIC127P1030-16; ComponentLink1Description: Manufacturer Link; ComponentLink1URL: http://www.altera.com/products/devices/config/cfg-index.html; ComponentLink2Description: Configuration Handbook; ComponentLink2URL: http://www.altera.com/literature/hb/cfg/config_handbook.pdf; ComponentLink3Description: Pinout Specification; ComponentLink3URL: http://www.altera.com/literature/hb/cfg/config_handbook.pdf; ComponentLink4Description: Packaging Specification; ComponentLink4URL: http://www.altera.com/support/devices/packaging/specifications/pkg-pin/pdf/016-SOIC.pdf
footprint SOIC16_N (SOIC, 16-Leads, Body 10.3x7.5mm, Pitch 1.27mm, IPC Medium Density)
footprint SOIC16_L (SOIC, 16-Leads, Body 10.3x7.5mm, Pitch 1.27mm, IPC High Density)
footprint SOIC16_M (SOIC, 16-Leads, Body 10.3x7.5mm, Pitch 1.27mm, IPC Low Density)
3D model SOIC16 (16-Pin Small Outline Integrated Circuit Package (SOIC16))
pins: 1 VCC (power) "3.3V supply", 2 VCC (power) "3.3V supply", 3 NC "Can be left floating, or connected to VCC or GND", 4 NC "Can be left floating, or connected to VCC or GND", 5 NC "Can be left floating, or connected to VCC or GND", 6 NC "Can be left floating, or connected to VCC or GND", 7 nCS (in) "Active low, chip select input", 8 DATA (out) "Serial data out", 9 VCC (power) "3.3V supply", 10 GND (power) "Ground", 11 NC "Can be left floating, or connected to VCC or GND", 12 NC "Can be left floating, or connected to VCC or GND", 13 NC "Can be left floating, or connected to VCC or GND", 14 NC "Can be left floating, or connected to VCC or GND", 15 ASDI (in) "AS data in", 16 DCLK (in) "Provides timing of the serial interface"

## FM2305/6
designator ?
pins: 1 SEG0/DIG0 (out), 2 SEG1/DIG1 (out), 3 SEG2/DIG2 (out), 4 SEG3/DIG3 (out), 5 SEG4/DIG4 (out), 6 SEG5/DIG5 (out), 7 SEG6/DIG6 (out), 8 SEG7/DIG7 (out), 9 SEG8/DIG8 (out), 10 SEG9/DIG9 (out), 11 SEG10/DIG10 (out), 12 SEG11/DIG11 (out), 13 SEG12/SEGA (out), 14 SEG13/SEGB (out), 15 SEG14/SEGC (out), 16 SEG15/SEGD (out), 17 SEG16/SEGE (out), 18 SEG17/SEGF (out), 19 VDDP (power), 20 VSSP (power), 21 SEG18/SEGG (out), 22 SEG19/SEGH (out), 23 SEG20/DIG12 (out), 24 SEG21/DIG13 (out), 25 SEG22 (out), 26 SEG23 (out), 27 CTRL1/RC0/SEG24 (out), 28 CTRL2/RC1/SEG25 (out), 29 SAMPLE/RC2/SEG26 (out), 30 TM/RC3/SEG27 (out), 31 DIR/DIRIN (io), 32 FOUT (out), 33 SENSOR1/PULSEIN (in), 34 SENSOR2/RB0/INT (in), 35 RB2/ADCIN2/SVSIN (io), 36 RB3/ADCIN3 (io), 37 RB6 (io), 38 RB7 (io), 39 RA0 (io), 40 RA1 (io), 41 RA2 (io), 42 RA3 (io), 43 RA4/TOCKI (io), 44 RA5 (io), 45 RXD0 (in), 46 TXD0 (out), 47 RXD1/PDAT (in), 48 TXD1/PCLK (io), 49 X1 (in), 50 X2 (out), 51 CPLL/VLCD, 52 VCAP/VDDI (power), 53 VSS (power), 54 VDD (power), 55 VBAT/RC4/SEG28 (power), 56 CADC/RC5/SEG29 (io), 57 RADC/RC6/SEG30 (io), 58 CREF/RC7/SEG31 (io), 59 PROG (io), 60 COM0 (out), 61 COM1 (out), 62 COM2 (out), 63 COM3 (out), 64 COUNT/NC (out)
text: FM2306/2305

## GDT-2
designator ?
pins: 1, 2

## GDT-3
designator ?
pins: 1, 2, 3

## GPS_CONNECTOR
designator *
footprint M12M
pins: 1 TXD1, 2 RXD1, 3 +3V, 4 1PPS, 5 GND, 6 BATT, 7 REV, 8 RTCM, 9 ANT BIAS, 10 REV

## GWPT8970B
designator ?
pins: 1 COM1, 2 COM2, 3 COM3, 4 COM4, 5 S1, 6 S2, 7 S3, 8 S4, 9 S5, 10 S6, 11 S7, 12 S8, 13 S9, 14 S10, 15 S11, 16 S12, 17 S13, 18 S14, 19 S15, 20 S16, 21 S17, 22 S18, 23 S19, 24 S20, 25 S21, 26 S22, 27 S23, 28 S24, 29 S25, 30 S26, 31 S27, 32 S28, 33 S29, 34 S30, 35 S31, 36 S32

## HD5700
designator *
pins: 1 EN, 2 GND, 3 VIN, 4 VOUT, 5 FB

## HD5733
designator *
pins: 1 VIN, 2 GND, 3 EN, 4 NC, 5 VOUT

## HD7100
designator *
pins: 1 CHRG, 2 GND, 3 BAT, 4 VCC, 5 PROG

## Header 2
designator P?
Header, 2-Pin; LatestRevisionDate: 17-Jul-2002; LatestRevisionNote: Re-released for DXP Platform.; Publisher: Altium Limited
footprint HDR1X2 (Connector; Header; 2 Position)
signal-integrity model Connector
pins: 1, 2

## Header 2_1
designator P?
Header, 2-Pin; LatestRevisionDate: 17-Jul-2002; LatestRevisionNote: Re-released for DXP Platform.; Publisher: Altium Limited
footprint HDR1X2 (Connector; Header; 2 Position)
signal-integrity model Connector
pins: 1, 2

## Header 2X2_1
designator P?, comment Header 2X2
Header, 2-Pin, Dual row; LatestRevisionDate: 17-Jul-2002; LatestRevisionNote: Re-released for DXP Platform.; Publisher: Altium Limited
footprint HDR2X2 (Connector; Header; 2x2 Position)
signal-integrity model Connector
pins: 1, 2, 3, 4

## Header 4X2A
designator P?
Header, 4-Pin, Dual row; LatestRevisionDate: 17-Jul-2002; LatestRevisionNote: Re-released for DXP Platform.; Publisher: Altium Limited
footprint HDR2X4_CEN (Connector; Header; 4x2 Position)
signal-integrity model Connector
pins: 1, 2, 3, 4, 5, 6, 7, 8

## Header 5X2
designator P?, comment AS
Header, 5-Pin, Dual row; LatestRevisionDate: 17-Jul-2002; LatestRevisionNote: Re-released for DXP Platform.; Publisher: Altium Limited
footprint HDR2X5 (Connector; Header; 5x2 Position)
signal-integrity model Connector
pins: 1, 2, 3, 4, 5, 6, 7, 8, 9, 10

## Header 6_1
designator *

## Header 9X2H
designator P?
Header, 9-Pin, Dual row, Right Angle; LatestRevisionDate: 17-Jul-2002; LatestRevisionNote: Re-released for DXP Platform.; Publisher: Altium Limited
footprint HDR2X9H (Connector; Header; 9x2 Position; Right Angle)
signal-integrity model Connector
pins: 1, 2, 3, 4, 5, 6, 7, 8, 9, 10, 11, 12, 13, 14, 15, 16, 17, 18

## Header 12X2H
designator P?
Header, 12-Pin, Dual row, Right Angle; LatestRevisionDate: 17-Jul-2002; LatestRevisionNote: Re-released for DXP Platform.; Publisher: Altium Limited
footprint HDR2X12H (Connector; Header; 12x2 Position; Right Angle)
signal-integrity model Connector
pins: 1, 2, 3, 4, 5, 6, 7, 8, 9, 10, 11, 12, 13, 14, 15, 16, 17, 18, 19, 20, 21, 22, 23, 24

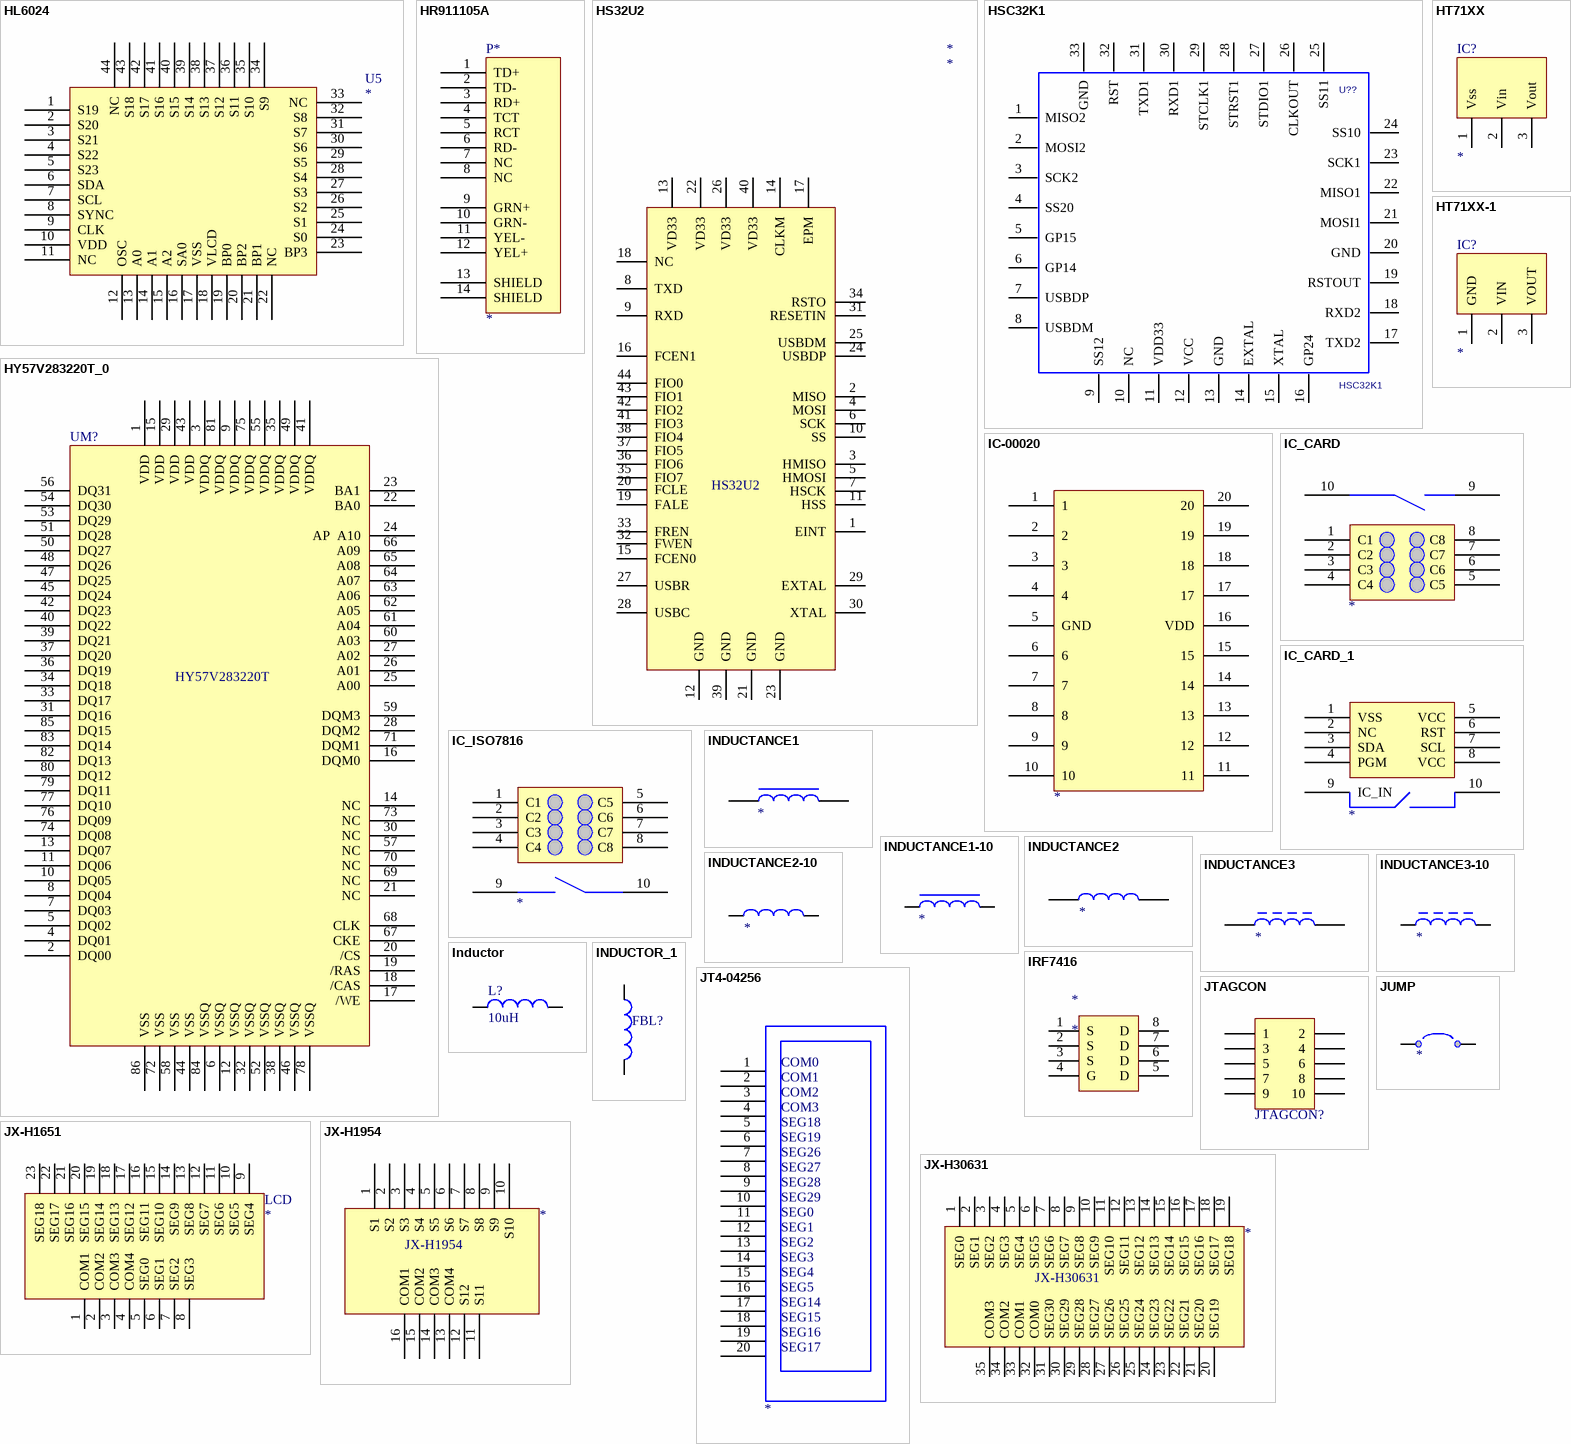
[diagram p5: symbols HL6024 to JX-H30631]

## HL6024
designator U5
footprint LQFP44
pins: 1 S19, 2 S20, 3 S21, 4 S22, 5 S23, 6 SDA, 7 SCL, 8 SYNC, 9 CLK, 10 VDD, 11 NC, 12 OSC, 13 A0, 14 A1, 15 A2, 16 SA0, 17 VSS, 18 VLCD, 19 BP0, 20 BP2, 21 BP1, 22 NC, 23 BP3, 24 S0, 25 S1, 26 S2, 27 S3, 28 S4, 29 S5, 30 S6, 31 S7, 32 S8, 33 NC, 34 S9, 35 S10, 36 S11, 37 S12, 38 S13, 39 S14, 40 S15, 41 S16, 42 S17, 43 S18, 44 NC
2 alternate drawings of the same symbol

## HR911105A
designator P*
HR911105A RJ45插座
footprint HR911105A
pins: 1 TD+, 2 TD-, 3 RD+, 4 TCT, 5 RCT, 6 RD-, 7 NC, 8 NC, 9 GRN+, 10 GRN-, 11 YEL-, 12 YEL+, 13 SHIELD, 14 SHIELD
2 alternate drawings of the same symbol

## HS32U2
designator *
pins: 1 EINT, 2 MISO, 3 HMISO, 4 MOSI, 5 HMOSI, 6 SCK, 7 HSCK, 8 TXD, 9 RXD, 10 SS, 11 HSS, 12 GND, 13 VD33, 14 CLKM, 15 FCEN0, 16 FCEN1, 17 EPM, 18 NC, 19 FALE, 20 FCLE, 21 GND, 22 VD33, 23 GND, 24 USBDP, 25 USBDM, 26 VD33, 27 USBR, 28 USBC, 29 EXTAL, 30 XTAL, 31 RESETIN, 32 FWEN, 33 FREN, 34 RSTO, 35 FIO7, 36 FIO6, 37 FIO5, 38 FIO4, 39 GND, 40 VD33, 41 FIO3, 42 FIO2, 43 FIO1, 44 FIO0

## HSC32K1
designator U??
PCB DECAL: QFN4X4_32_16
footprint QFN4X4_32_16
pins: 1 MISO2, 2 MOSI2, 3 SCK2, 4 SS20, 5 GP15, 6 GP14, 7 USBDP, 8 USBDM, 9 SS12, 10 NC, 11 VDD33, 12 VCC, 13 GND, 14 EXTAL, 15 XTAL, 16 GP24, 17 TXD2, 18 RXD2, 19 RSTOUT, 20 GND, 21 MOSI1, 22 MISO1, 23 SCK1, 24 SS10, 25 SS11, 26 CLKOUT, 27 STDIO1, 28 STRST1, 29 STCLK1, 30 RXD1, 31 TXD1, 32 RST, 33 GND

## HT71XX
designator IC?
BL8503-XXPRM
footprint SOT-23
pins: 1 Vss, 2 Vin, 3 Vout

## HT71XX-1
designator IC?
7805
footprint TO-92B
pins: 1 GND, 2 VIN, 3 VOUT

## HY57V283220T_0
designator UM?, comment HY57V283220T
Text Field1: 200; Text Field2: 400
footprint TSOP86
pins: 1 VDD, 2 DQ00, 3 VDDQ, 4 DQ01, 5 DQ02, 6 VSSQ, 7 DQ03, 8 DQ04, 9 VDDQ, 10 DQ05, 11 DQ06, 12 VSSQ, 13 DQ07, 14 NC, 15 VDD, 16 DQM0, 17 /WE, 18 /CAS, 19 /RAS, 20 /CS, 21 NC, 22 BA0, 23 BA1, 24 AP  A10, 25 A00, 26 A01, 27 A02, 28 DQM2, 29 VDD, 30 NC, 31 DQ16, 32 VSSQ, 33 DQ17, 34 DQ18, 35 VDDQ, 36 DQ19, 37 DQ20, 38 VSSQ, 39 DQ21, 40 DQ22, 41 VDDQ, 42 DQ23, 43 VDD, 44 VSS, 45 DQ24, 46 VSSQ, 47 DQ25, 48 DQ26, 49 VDDQ, 50 DQ27, 51 DQ28, 52 VSSQ, 53 DQ29, 54 DQ30, 55 VDDQ, 56 DQ31, 57 NC, 58 VSS, 59 DQM3, 60 A03, 61 A04, 62 A05, 63 A06, 64 A07, 65 A08, 66 A09, 67 CKE, 68 CLK, 69 NC, 70 NC, 71 DQM1, 72 VSS, 73 NC, 74 DQ08, 75 VDDQ, 76 DQ09, 77 DQ10, 78 VSSQ, 79 DQ11, 80 DQ12, 81 VDDQ, 82 DQ13, 83 DQ14, 84 VSSQ, 85 DQ15, 86 VSS

## IC-00020
designator ?
pins: 1, 2, 3, 4, 5 GND, 6, 7, 8, 9, 10, 11, 12, 13, 14, 15, 16 VDD, 17, 18, 19, 20

## IC_CARD
designator ?
pins: 1 C1, 2 C2, 3 C3, 4 C4, 5 C5, 6 C6, 7 C7, 8 C8, 9 K1, 10 K2

## IC_CARD_1
designator ?
pins: 1 VSS, 2 NC, 3 SDA, 4 PGM, 5 VCC, 6 RST, 7 SCL, 8 VCC, 9 IC_IN, 10 K2

## IC_ISO7816
designator ?
pins: 1 C1, 2 C2, 3 C3, 4 C4, 5 C5, 6 C6, 7 C7, 8 C8, 9 K1, 10 K2

## INDUCTANCE1
designator ?
pins: 1, 2

## INDUCTANCE1-10
designator ?
pins: 1, 2

## INDUCTANCE2
designator ?
pins: 1, 2

## INDUCTANCE2-10
designator ?
pins: 1, 2

## INDUCTANCE3
designator ?
pins: 1, 2

## INDUCTANCE3-10
designator ?
pins: 1, 2

## Inductor
designator L?, comment 10uH
Inductor; Code_IEC: 1005; Published: 8-Jun-2000; LatestRevisionDate: 17-Jul-2002; LatestRevisionNote: Re-released for DXP Platform.; PackageReference: 0402-A; Publisher: Altium Limited; Code_JEITA: 0402; Value: 10uH
footprint 0402-A (Chip Inductor; Body 1 x 0.5 mm (LxW typ))
footprint L0603 (Chip Inductor; Body 1.6 x 0.8 mm (LxW typ))
footprint 2012_Chip (2012 Chip; Chip Inductor; Body 2.0 x 1.2 mm (LxW typ))
footprint 2029 (Chip Inductor; Body 2 x 1.2 mm (LxW typ))
footprint 3261 (3216 Chip; Chip Inductor; Body 3.2 x 1.6 mm (LxW typ))
footprint 4564_Chip (4564 Chip; Chip Inductor; Body 4.5 x 6.4 mm (LxW typ))
simulation model INDUCTOR (Inductor)
signal-integrity model Inductor
pins: 1, 2

## INDUCTOR_1
designator FBL?, comment BEAD  (value not drawn)
Text Field1: 20; Text Field2: 40
footprint 1206A
pins: 1, 2

## IRF7416
designator *
pins: 1 S, 2 S, 3 S, 4 G, 5 D, 6 D, 7 D, 8 D

## JT4-04256
designator ?
pins: 1, 2, 3, 4, 5, 6, 7, 8, 9, 10, 11, 12, 13, 14, 15, 16, 17, 18, 19, 20
text: COM0; COM1; COM2; COM3; SEG18; SEG19; SEG26; SEG27; SEG28; SEG29; SEG0; SEG1; SEG2; SEG3; SEG4; SEG5; SEG14; SEG15; SEG16; SEG17

## JTAGCON
designator JTAGCON?
LatestRevisionDate: 17-Jul-2002; LatestRevisionNote: Re-released for DXP Platform.; Publisher: Altium Limited
footprint JTAG-10L (Footprint not found)
pins: 1, 2, 3, 4, 5, 6, 7, 8, 9, 10

## JUMP
designator ?
pins: 1, 2

## JX-H1651
designator LCD
footprint JX-H1651
pins: 1 COM1, 2 COM2, 3 COM3, 4 COM4, 5 SEG0, 6 SEG1, 7 SEG2, 8 SEG3, 9 SEG4, 10 SEG5, 11 SEG6, 12 SEG7, 13 SEG8, 14 SEG9, 15 SEG10, 16 SEG11, 17 SEG12, 18 SEG13, 19 SEG14, 20 SEG15, 21 SEG16, 22 SEG17, 23 SEG18

## JX-H1954
designator ?
pins: 1 S1, 2 S2, 3 S3, 4 S4, 5 S5, 6 S6, 7 S7, 8 S8, 9 S9, 10 S10, 11 S11, 12 S12, 13 COM4, 14 COM3, 15 COM2, 16 COM1

## JX-H30631
designator ?
pins: 1 SEG0, 2 SEG1, 3 SEG2, 4 SEG3, 5 SEG4, 6 SEG5, 7 SEG6, 8 SEG7, 9 SEG8, 10 SEG9, 11 SEG10, 12 SEG11, 13 SEG12, 14 SEG13, 15 SEG14, 16 SEG15, 17 SEG16, 18 SEG17, 19 SEG18, 20 SEG19, 21 SEG20, 22 SEG21, 23 SEG22, 24 SEG23, 25 SEG24, 26 SEG25, 27 SEG26, 28 SEG27, 29 SEG28, 30 SEG29, 31 SEG30, 32 COM0, 33 COM1, 34 COM2, 35 COM3

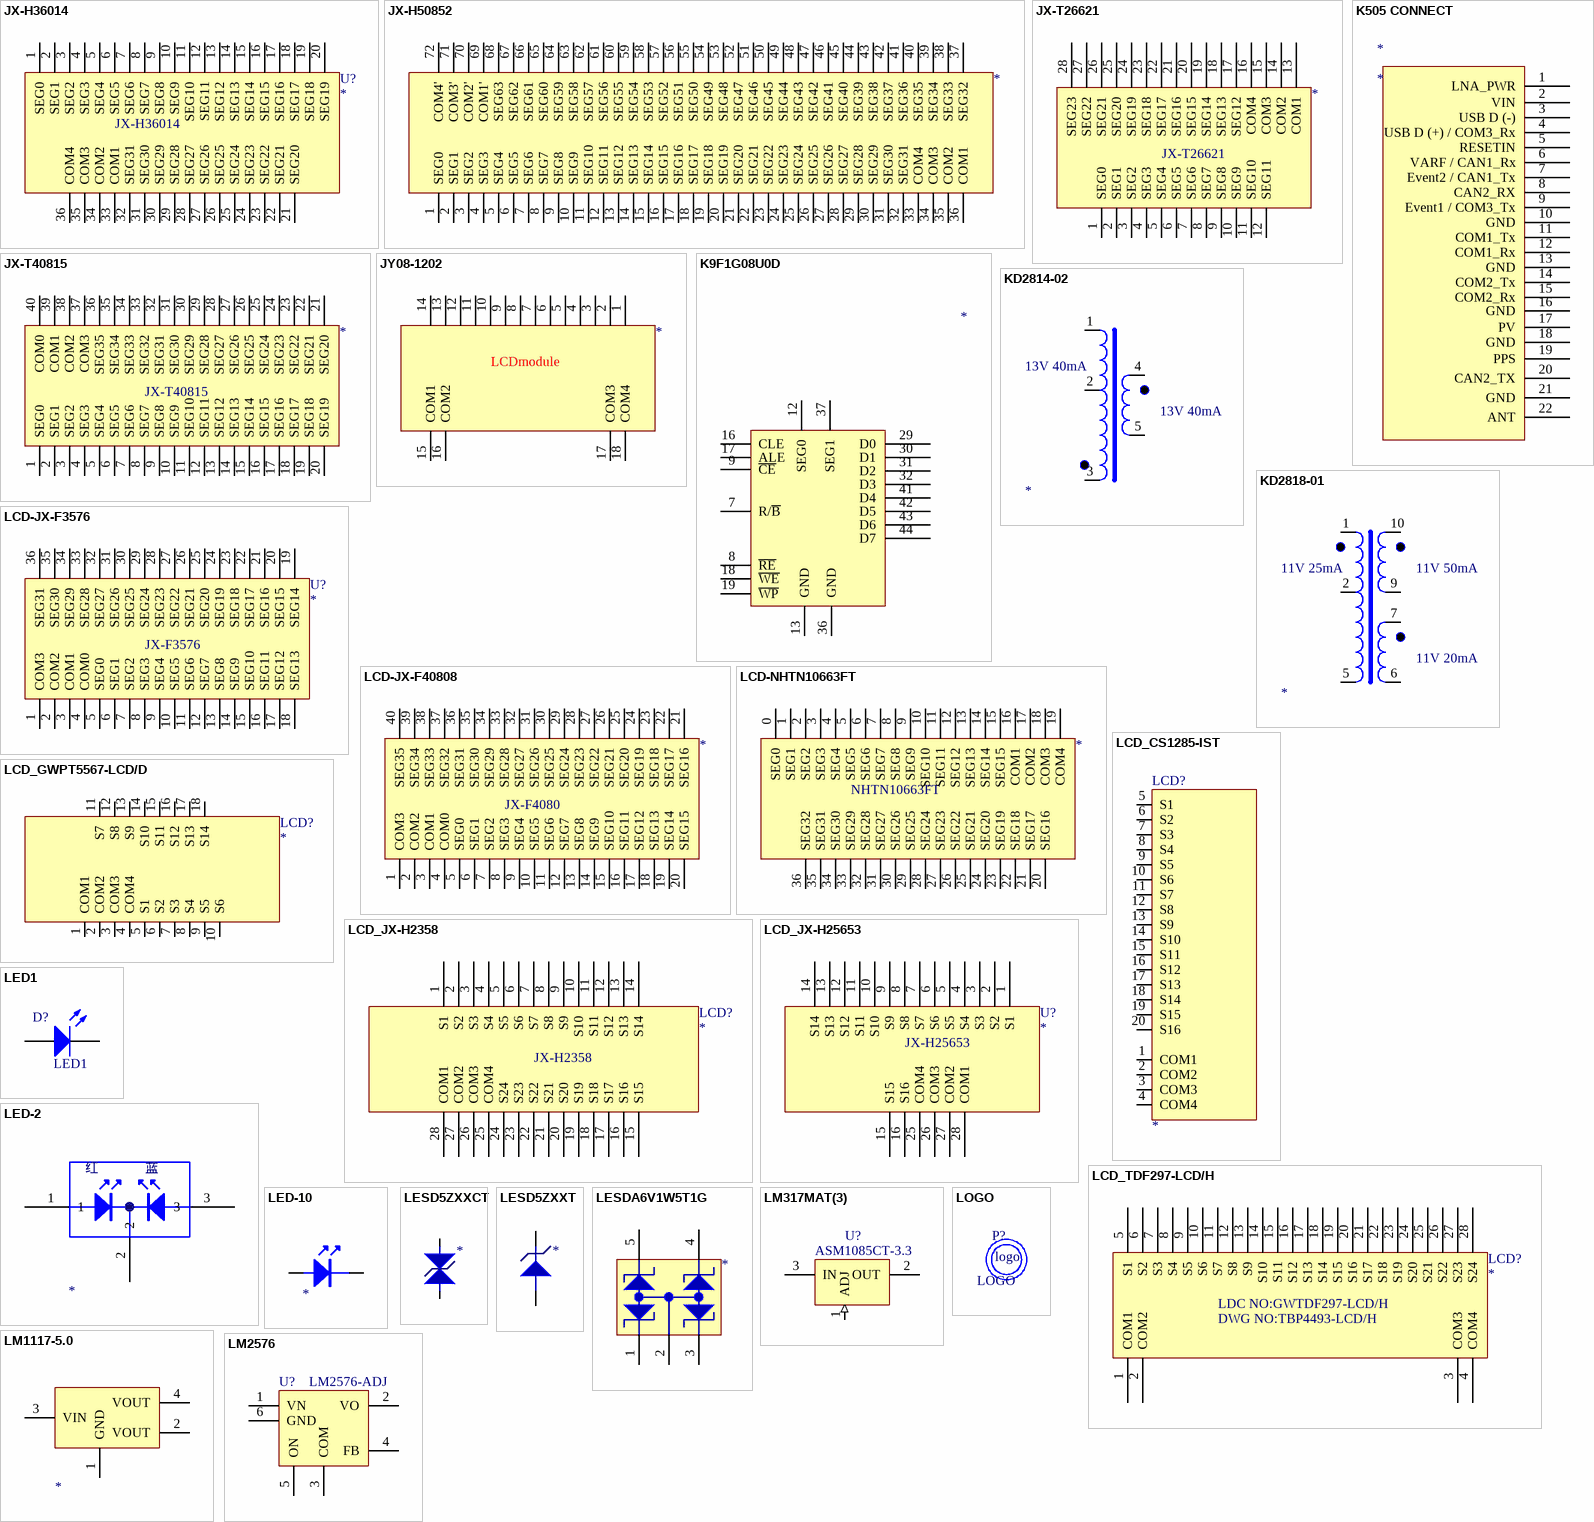
[diagram p6: symbols JX-H36014 to LOGO]

## JX-H36014
designator U?
footprint JX-30614
pins: 1 SEG0, 2 SEG1, 3 SEG2, 4 SEG3, 5 SEG4, 6 SEG5, 7 SEG6, 8 SEG7, 9 SEG8, 10 SEG9, 11 SEG10, 12 SEG11, 13 SEG12, 14 SEG13, 15 SEG14, 16 SEG15, 17 SEG16, 18 SEG17, 19 SEG18, 20 SEG19, 21 SEG20, 22 SEG21, 23 SEG22, 24 SEG23, 25 SEG24, 26 SEG25, 27 SEG26, 28 SEG27, 29 SEG28, 30 SEG29, 31 SEG30, 32 SEG31, 33 COM1, 34 COM2, 35 COM3, 36 COM4

## JX-H50852
designator ?
pins: 1 SEG0, 2 SEG1, 3 SEG2, 4 SEG3, 5 SEG4, 6 SEG5, 7 SEG6, 8 SEG7, 9 SEG8, 10 SEG9, 11 SEG10, 12 SEG11, 13 SEG12, 14 SEG13, 15 SEG14, 16 SEG15, 17 SEG16, 18 SEG17, 19 SEG18, 20 SEG19, 21 SEG20, 22 SEG21, 23 SEG22, 24 SEG23, 25 SEG24, 26 SEG25, 27 SEG26, 28 SEG27, 29 SEG28, 30 SEG29, 31 SEG30, 32 SEG31, 33 COM4, 34 COM3, 35 COM2, 36 COM1, 37 SEG32, 38 SEG33, 39 SEG34, 40 SEG35, 41 SEG36, 42 SEG37, 43 SEG38, 44 SEG39, 45 SEG40, 46 SEG41, 47 SEG42, 48 SEG43, 49 SEG44, 50 SEG45, 51 SEG46, 52 SEG47, 53 SEG48, 54 SEG49, 55 SEG50, 56 SEG51, 57 SEG52, 58 SEG53, 59 SEG54, 60 SEG55, 61 SEG56, 62 SEG57, 63 SEG58, 64 SEG59, 65 SEG60, 66 SEG61, 67 SEG62, 68 SEG63, 69 COM1', 70 COM2', 71 COM3', 72 COM4'

## JX-T26621
designator ?
pins: 1 SEG0, 2 SEG1, 3 SEG2, 4 SEG3, 5 SEG4, 6 SEG5, 7 SEG6, 8 SEG7, 9 SEG8, 10 SEG9, 11 SEG10, 12 SEG11, 13 COM1, 14 COM2, 15 COM3, 16 COM4, 17 SEG12, 18 SEG13, 19 SEG14, 20 SEG15, 21 SEG16, 22 SEG17, 23 SEG18, 24 SEG19, 25 SEG20, 26 SEG21, 27 SEG22, 28 SEG23

## JX-T40815
designator ?
pins: 1 SEG0, 2 SEG1, 3 SEG2, 4 SEG3, 5 SEG4, 6 SEG5, 7 SEG6, 8 SEG7, 9 SEG8, 10 SEG9, 11 SEG10, 12 SEG11, 13 SEG12, 14 SEG13, 15 SEG14, 16 SEG15, 17 SEG16, 18 SEG17, 19 SEG18, 20 SEG19, 21 SEG20, 22 SEG21, 23 SEG22, 24 SEG23, 25 SEG24, 26 SEG25, 27 SEG26, 28 SEG27, 29 SEG28, 30 SEG29, 31 SEG30, 32 SEG31, 33 SEG32, 34 SEG33, 35 SEG34, 36 SEG35, 37 COM3, 38 COM2, 39 COM1, 40 COM0

## JY08-1202
designator ?
pins: 1, 2, 3, 4, 5, 6, 7, 8, 9, 10, 11, 12, 13, 14, 15 COM1, 16 COM2, 17 COM3, 18 COM4
text: LCDmodule

## K9F1G08U0D
designator ?
pins: 7 R/~{B}, 8 ~{RE}, 9 ~{CE}, 12 SEG0, 13 GND, 16 CLE, 17 ALE, 18 ~{WE}, 19 ~{WP}, 29 D0, 30 D1, 31 D2, 32 D3, 36 GND, 37 SEG1, 41 D4, 42 D5, 43 D6, 44 D7

## K505 CONNECT
designator *
pins: 1 LNA_PWR, 2 VIN, 3 USB D (-), 4 USB D (+) / COM3_Rx, 5 RESETIN, 6 VARF / CAN1_Rx, 7 Event2 / CAN1_Tx, 8 CAN2_RX, 9 Event1 / COM3_Tx, 10 GND, 11 COM1_Tx, 12 COM1_Rx, 13 GND, 14 COM2_Tx, 15 COM2_Rx, 16 GND, 17 PV, 18 GND, 19 PPS, 20 CAN2_TX, 21 GND, 22 ANT

## KD2814-02
designator ?
footprint KD2814-02
pins: 1, 2, 3, 4, 5
text: 13V 40mA

## KD2818-01
designator ?
footprint KD2818-01
pins: 1, 2, 5, 6, 7, 9, 10
text: 11V 25mA; 11V 50mA; 11V 20mA

## LCD-JX-F3576
designator U?
pins: 1 COM3, 2 COM2, 3 COM1, 4 COM0, 5 SEG0, 6 SEG1, 7 SEG2, 8 SEG3, 9 SEG4, 10 SEG5, 11 SEG6, 12 SEG7, 13 SEG8, 14 SEG9, 15 SEG10, 16 SEG11, 17 SEG12, 18 SEG13, 19 SEG14, 20 SEG15, 21 SEG16, 22 SEG17, 23 SEG18, 24 SEG19, 25 SEG20, 26 SEG21, 27 SEG22, 28 SEG23, 29 SEG24, 30 SEG25, 31 SEG26, 32 SEG27, 33 SEG28, 34 SEG29, 35 SEG30, 36 SEG31
text: JX-F3576

## LCD-JX-F40808
designator ?
pins: 1 COM3, 2 COM2, 3 COM1, 4 COM0, 5 SEG0, 6 SEG1, 7 SEG2, 8 SEG3, 9 SEG4, 10 SEG5, 11 SEG6, 12 SEG7, 13 SEG8, 14 SEG9, 15 SEG10, 16 SEG11, 17 SEG12, 18 SEG13, 19 SEG14, 20 SEG15, 21 SEG16, 22 SEG17, 23 SEG18, 24 SEG19, 25 SEG20, 26 SEG21, 27 SEG22, 28 SEG23, 29 SEG24, 30 SEG25, 31 SEG26, 32 SEG27, 33 SEG28, 34 SEG29, 35 SEG30, 36 SEG31, 37 SEG32, 38 SEG33, 39 SEG34, 40 SEG35
text: JX-F4080

## LCD-NHTN10663FT
designator ?
pins: 0 SEG0, 1 SEG1, 2 SEG2, 3 SEG3, 4 SEG4, 5 SEG5, 6 SEG6, 7 SEG7, 8 SEG8, 9 SEG9, 10 SEG10, 11 SEG11, 12 SEG12, 13 SEG13, 14 SEG14, 15 SEG15, 16 COM1, 17 COM2, 18 COM3, 19 COM4, 20 SEG16, 21 SEG17, 22 SEG18, 23 SEG19, 24 SEG20, 25 SEG21, 26 SEG22, 27 SEG23, 28 SEG24, 29 SEG25, 30 SEG26, 31 SEG27, 32 SEG28, 33 SEG29, 34 SEG30, 35 SEG31, 36 SEG32
text: NHTN10663FT

## LCD_CS1285-IST
designator LCD?
pins: 1 COM1, 2 COM2, 3 COM3, 4 COM4, 5 S1, 6 S2, 7 S3, 8 S4, 9 S5, 10 S6, 11 S7, 12 S8, 13 S9, 14 S10, 15 S11, 16 S12, 17 S13, 18 S14, 19 S15, 20 S16

## LCD_GWPT5567-LCD/D
designator LCD?
pins: 1 COM1, 2 COM2, 3 COM3, 4 COM4, 5 S1, 6 S2, 7 S3, 8 S4, 9 S5, 10 S6, 11 S7, 12 S8, 13 S9, 14 S10, 15 S11, 16 S12, 17 S13, 18 S14

## LCD_JX-H2358
designator LCD?
pins: 1 S1, 2 S2, 3 S3, 4 S4, 5 S5, 6 S6, 7 S7, 8 S8, 9 S9, 10 S10, 11 S11, 12 S12, 13 S13, 14 S14, 15 S15, 16 S16, 17 S17, 18 S18, 19 S19, 20 S20, 21 S21, 22 S22, 23 S23, 24 S24, 25 COM4, 26 COM3, 27 COM2, 28 COM1
text: JX-H2358

## LCD_JX-H25653
designator U?
pins: 1 S1, 2 S2, 3 S3, 4 S4, 5 S5, 6 S6, 7 S7, 8 S8, 9 S9, 10 S10, 11 S11, 12 S12, 13 S13, 14 S14, 15 S15, 16 S16, 25 COM4, 26 COM3, 27 COM2, 28 COM1
text: JX-H25653

## LCD_TDF297-LCD/H
designator LCD?
pins: 1 COM1, 2 COM2, 3 COM3, 4 COM4, 5 S1, 6 S2, 7 S3, 8 S4, 9 S5, 10 S6, 11 S7, 12 S8, 13 S9, 14 S10, 15 S11, 16 S12, 17 S13, 18 S14, 19 S15, 20 S16, 21 S17, 22 S18, 23 S19, 24 S20, 25 S21, 26 S22, 27 S23, 28 S24
text: LDC NO:GWTDF297-LCD/H; DWG NO:TBP4493-LCD/H

## LED1
designator D?
Typical RED GaAs LED; Published: 8-Jun-2000; LatestRevisionDate: 08-Jul-2005; LatestRevisionNote: Mech Layer 1 removed.; PackageReference: LED-1; Publisher: Altium Limited
footprint LED (fa guang diode)
simulation model LED1 (Diode)
pins: 1 A, 2 K

## LED-2
designator ?
pins: 1, 2, 3
text: 红; 蓝

## LED-10
designator ?
pins: A 1, K 2

## LESD5ZXXCT
designator ?
pins: 1, 2

## LESD5ZXXT
designator ?
pins: 1, 2

## LESDA6V1W5T1G
designator ?
pins: 1, 2, 3, 4, 5

## LM317MAT(3)
designator U?, comment ASM1085CT-3.3
Three-Terminal Adjustable Output Positive Voltage Regulator; Text Field1: Heatsink surface is connected to pin2
footprint TO-92B
footprint SOT223 (SOT-223/SC-73; 4 Leads; Body 6.7 x 7.3 mm, inc. leads (LxW max))
footprint AMS1117-1.2
pins: 1 ADJ (in), 2 OUT (power), 3 IN (power)

## LM1117-5.0
designator ?
pins: 1 GND, 2 VOUT, 3 VIN, 4 VOUT

## LM2576
designator U?, comment LM2576-ADJ
footprint LM2576
pins: 1 VN, 2 VO, 3 COM, 4 FB, 5 ON, 6 GND

## LOGO
designator P?
BNC Elbow Connector; LatestRevisionDate: 17-Jul-2002; LatestRevisionNote: Re-released for DXP Platform.; Publisher: Altium Limited
footprint MIN_BNC
text: logo

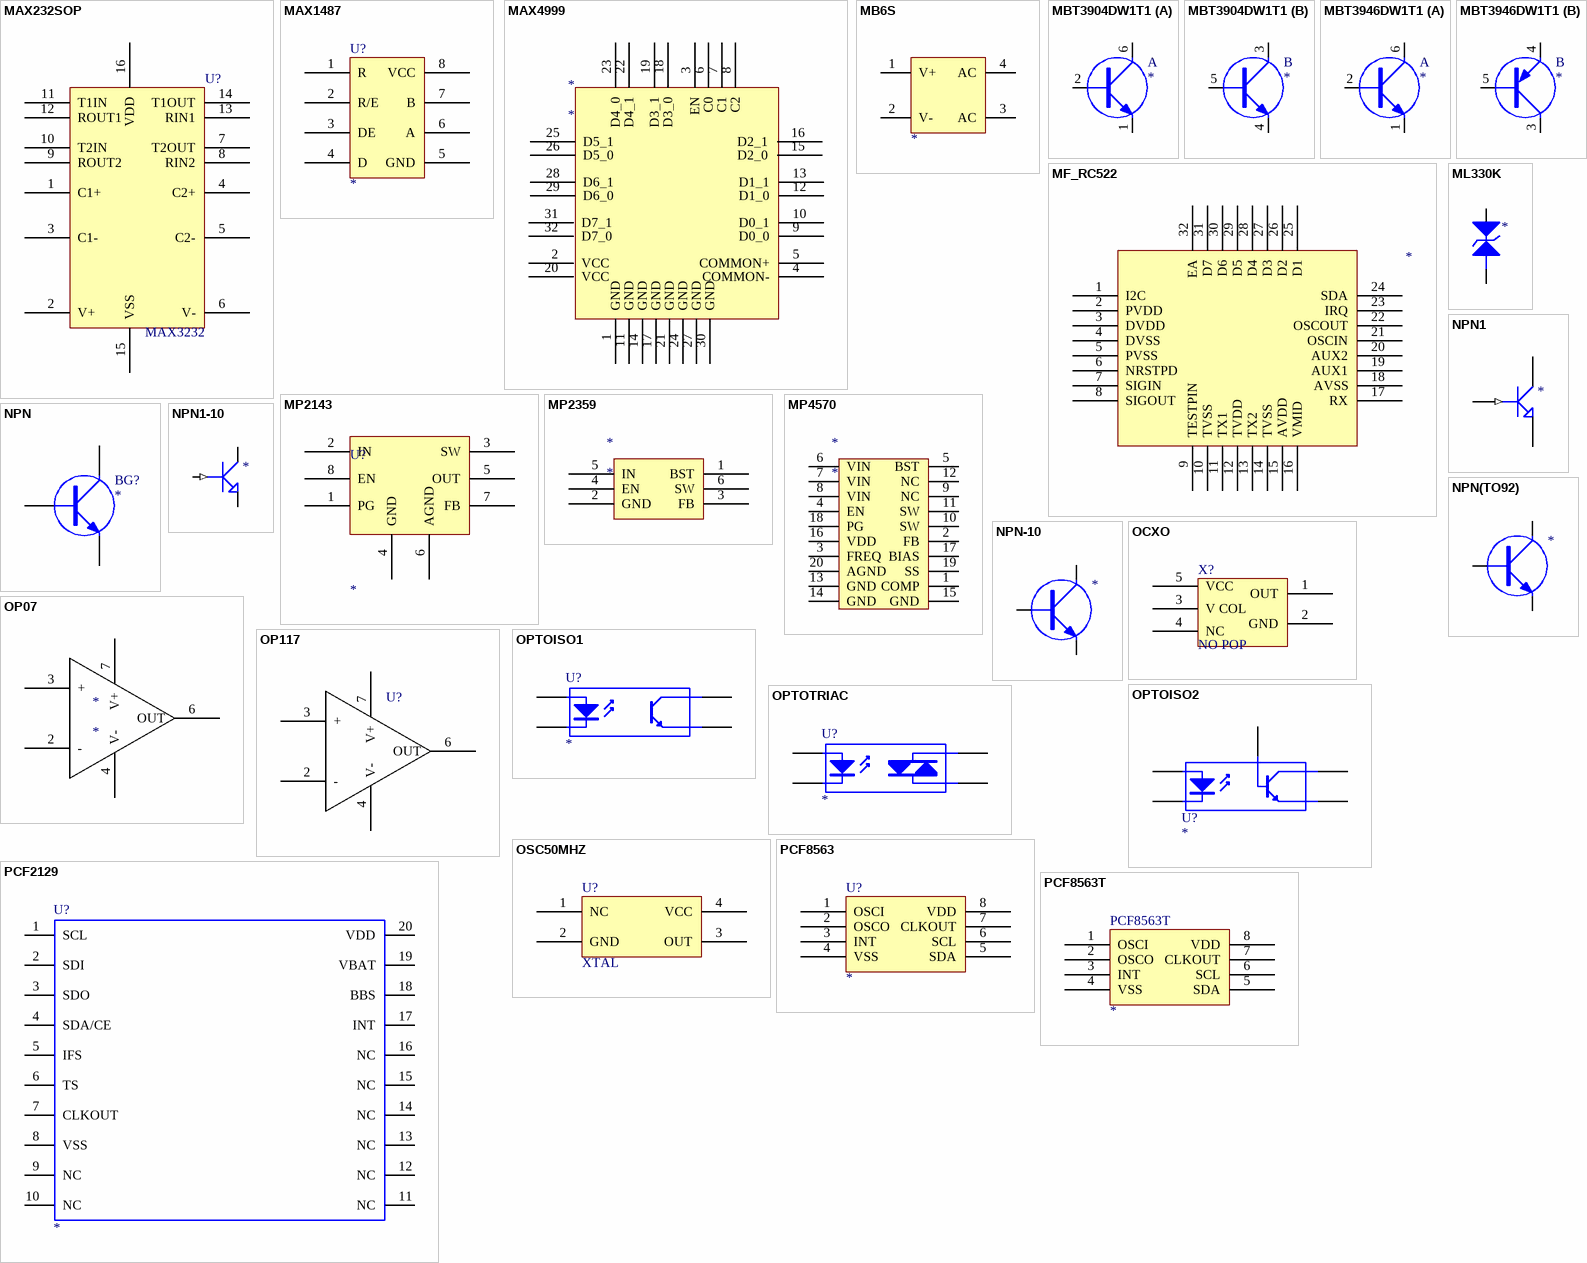
[diagram p7: symbols MAX232SOP to PCF8563T]

## MAX232SOP
designator U?, comment MAX3232
footprint SSOP16
pins: 1 C1+, 2 V+, 3 C1-, 4 C2+, 5 C2-, 6 V-, 7 T2OUT, 8 RIN2, 9 ROUT2, 10 T2IN, 11 T1IN, 12 ROUT1, 13 RIN1, 14 T1OUT, 15 VSS (power), 16 VDD (power)

## MAX1487
designator U?
Text Field1: MAX1784
pins: 1 R, 2 R/E, 3 DE, 4 D, 5 GND, 6 A, 7 B, 8 VCC

## MAX4999
designator *
pins: 1 GND, 2 VCC, 3 EN, 4 COMMON-, 5 COMMON+, 6 C0, 7 C1, 8 C2, 9 D0_0, 10 D0_1, 11 GND, 12 D1_0, 13 D1_1, 14 GND, 15 D2_0, 16 D2_1, 17 GND, 18 D3_0, 19 D3_1, 20 VCC, 21 GND, 22 D4_1, 23 D4_0, 24 GND, 25 D5_1, 26 D5_0, 27 GND, 28 D6_1, 29 D6_0, 30 GND, 31 D7_1, 32 D7_0

## MB6S
designator ?
footprint MB6S
pins: 1 V+, 2 V-, 3 AC, 4 AC

## MBT3904DW1T1
designator ?
footprint MBT3904DW1T1
footprint SOT-363
footprint SC-88
part A pins: 1 E, 2 B, 6 C
part B pins: 3 C, 4 E, 5 B

## MBT3946DW1T1
designator ?
footprint MBT3946DW1T1
footprint SOT-363
footprint SC-88
part A pins: 1 E, 2 B, 6 C
part B pins: 3 C, 4 E, 5 B

## MF_RC522
designator ?
pins: 1 I2C, 2 PVDD, 3 DVDD, 4 DVSS, 5 PVSS, 6 NRSTPD, 7 SIGIN, 8 SIGOUT, 9 TESTPIN, 10 TVSS, 11 TX1, 12 TVDD, 13 TX2, 14 TVSS, 15 AVDD, 16 VMID, 17 RX, 18 AVSS, 19 AUX1, 20 AUX2, 21 OSCIN, 22 OSCOUT, 23 IRQ, 24 SDA, 25 D1, 26 D2, 27 D3, 28 D4, 29 D5, 30 D6, 31 D7, 32 EA

## ML330K
designator ?
pins: 1, 2

## MP2143
designator U?
footprint DIP8
pins: 1 PG, 2 IN, 3 SW, 4 GND, 5 OUT, 6 AGND, 7 FB, 8 EN

## MP2359
designator *
pins: 1 BST, 2 GND, 3 FB, 4 EN, 5 IN, 6 SW

## MP4570
designator *
pins: 1 COMP, 2 FB, 3 FREQ, 4 EN, 5 BST, 6 VIN, 7 VIN, 8 VIN, 9 NC, 10 SW, 11 SW, 12 NC, 13 GND, 14 GND, 15 GND, 16 VDD, 17 BIAS, 18 PG, 19 SS, 20 AGND

## NPN
designator BG?
NPN
footprint SOT23
footprint SC-89
footprint SOT-23
pins: 1 B, 2 E, 3 C

## NPN1
designator ?
pins: 1 B (in), 2 E, 3 C

## NPN1-10
designator ?
pins: 1 B (in), 2 E, 3 C

## NPN(TO92)
designator ?
pins: B, C, E

## NPN-10
designator ?
pins: 1 B, 2 E, 3 C

## OCXO
designator X?, comment NO POP
footprint XTALSMD
pins: 1 OUT, 2 GND, 3 V COL, 4 NC, 5 VCC

## OP07
designator *
pins: 2 -, 3 +, 4 V-, 6 OUT, 7 V+

## OP117
designator U?
footprint SO8
pins: 1 Vos hidden to Vos, 2 -, 3 +, 4 V-, 5 NC hidden to NC, 6 OUT, 7 V+, 8 Vos hidden to Vos

## OPTOISO1
designator U?
Optoisolator
pins: 1, 2, 3, 4

## OPTOISO2
designator U?
Optoisolator
pins: 1 A, 2 K, 3 B, 4 C, 5 E

## OPTOTRIAC
designator U?
pins: 1 A, 2 K, 3 A/K, 4 A/K

## OSC50MHZ
designator U?, comment XTAL
footprint Model Name (Model Description)
footprint CRYSTAL
pins: 1 NC, 2 GND, 3 OUT, 4 VCC

## PCF2129
designator U?
pins: 1 SCL, 2 SDI, 3 SDO, 4 SDA/CE, 5 IFS, 6 TS, 7 CLKOUT, 8 VSS, 9 NC, 10 NC, 11 NC, 12 NC, 13 NC, 14 NC, 15 NC, 16 NC, 17 INT, 18 BBS, 19 VBAT, 20 VDD

## PCF8563
designator U?
pins: 1 OSCI, 2 OSCO, 3 INT, 4 VSS, 5 SDA, 6 SCL, 7 CLKOUT, 8 VDD

## PCF8563T
designator PCF8563T
footprint SO-8
footprint SO8
pins: 1 OSCI, 2 OSCO, 3 INT, 4 VSS, 5 SDA, 6 SCL, 7 CLKOUT, 8 VDD

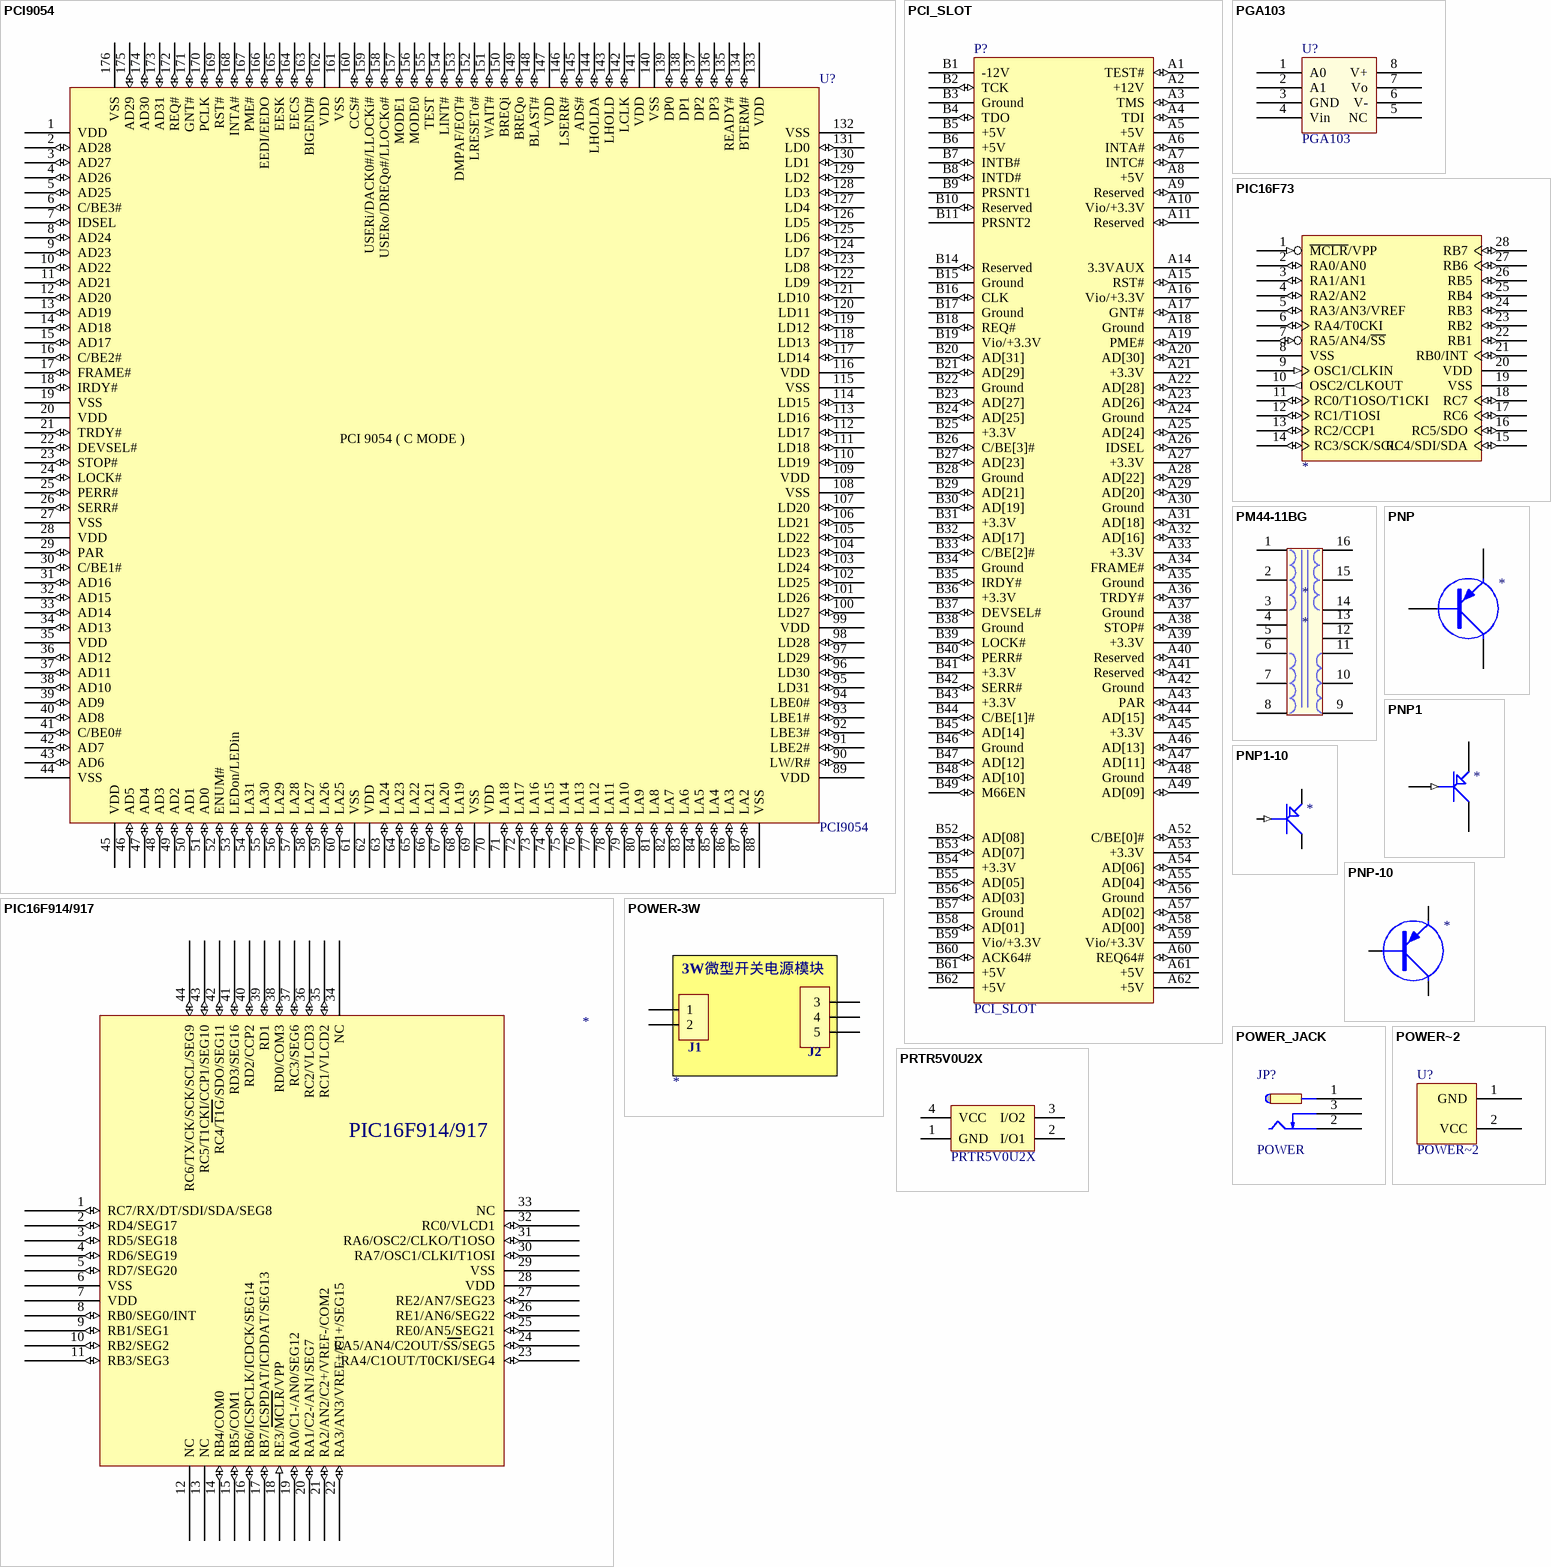
[diagram p8: symbols PCI9054 to PRTR5V0U2X]